# Altium integrated library TI Digital Signal Processor 32-Bit.IntLib: 121 symbols (part 8 of 13)
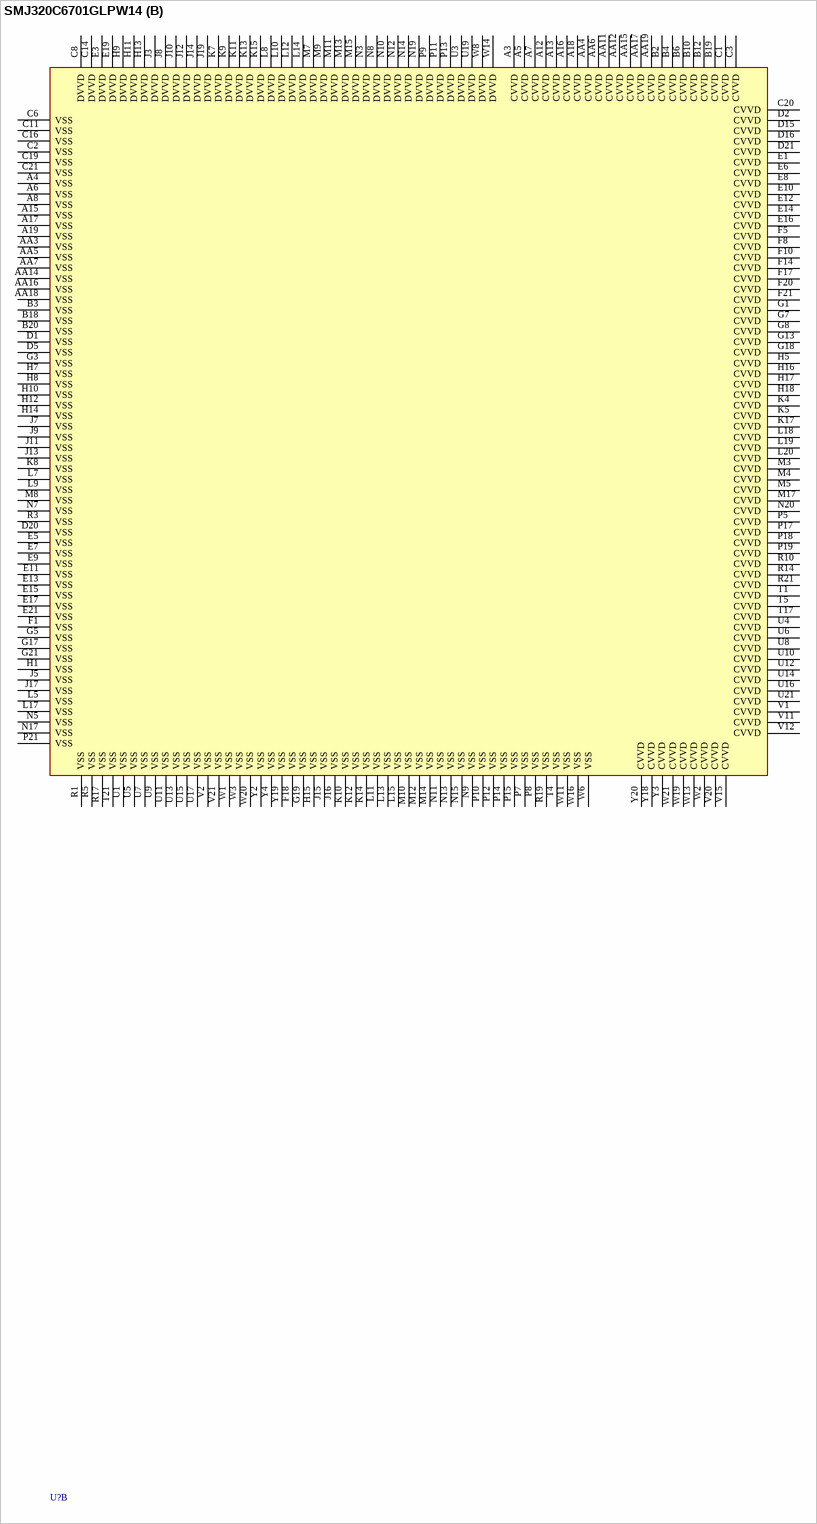
[diagram p137: symbol SMJ320C6701GLPW14]

## SMJ320C6701GLPW14
designator U?
Floating-Point, 1.9/3.3V DSP; Note: PLLV and PLLG are not part of external voltage supply or ground.; Published: 25-Jan-2001; LatestRevisionDate: 13-Apr-2006; LatestRevisionNote: IPC-7351 Footprint Added.; DatasheetVersion: Apr-2000; PackageVersion: Sep-1998; PackageReference: GLP429; Publisher: Altium Limited; PackageDescription: 429-Ball Ceramic Ball Grid Array 1.27 mm Pitch; ComponentLink1Description: Manufacturer Link; ComponentLink1URL: http://www.ti.com/; ComponentLink2Description: Datasheet; ComponentLink2URL: http://www-s.ti.com/sc/ds/smj320c6701.pdf
footprint GLP429 (BGA, 429-Leads, Body 27x27mm, Pitch 1.27mm)
3D model SMJ320C6701-GLP429 (429-Ball Ceramic Ball Grid Array 1.27 mm Pitch)
part A pins: A9 HD5 (io), A10 HD10 (io), A11 HD13 (io), A14 CLKIN (in), AA8 SSCLK (hiz), AA9 ED2 (io), AA10 ED6 (io), AA13 ED13 (io), B5 RSV8 (in), B7 HD1 (io), B8 HD4 (io), B9 HD8 (io), B11 HD14 (io), B13 RSV2 (in), B14 RSV3 (in), B15 ~{HOLDA} (out), B16 BOOTMODE4 (in), B17 CLKMODE1 (in), C4 ~{HDS}1 (in), C5 ~{HCS} (in), C7 HD0 (io), C9 HD6 (io), C10 HD9 (io), C12 PLLF, C13 PLLFREQ3 (in), C15 RSV5 (out), C17 CLKMODE0 (in), C18 BOOTMODE1 (in), D3 NC, D4 HR/~{W} (in), D6 NC, D7 RSV7 (in), D8 HD2 (io), D9 HD3 (io), D10 HD11 (io), D11 HD15 (io), D12 PLLV (power), D13 NC, D14 NC, D17 BOOTMODE0 (in), D18 NC, D19 PD (out), E2 DR1 (in), E4 HHWIL (in), E18 DMAC3 (out), E20 DMAC1 (out), F2 FSX1 (io), F3 FSR1 (io), F4 CLKS1 (in), F6 ~{HBE}0 (in), F7 RSV6 (in), F9 HD7 (io), F11 PLLFREQ1 (in), F12 NC, F13 RSV4 (in), F15 BOOTMODE2 (in), F16 RSV9 (out), F19 DMAC2 (out), G2 TOUT1 (hiz), G4 DX1 (hiz), G6 ~{HBE}1 (in), G9 HD12 (io), G10 PLLG (power), G11 PLLFREQ2 (in), G12 NC, G14 BOOTMODE3 (in), G15 NC, G16 DMAC0 (out), G20 LENDIAN (in), H2 ~{HINT} (hiz), H3 ~{HRDY} (out), H4 CLKR1 (io), H6 HCNTL0 (in), H19 NC, H20 NC, H21 NC, J1 EA18 (hiz), J2 EA19 (hiz), J4 CLKX1 (io), J6 HCNTL1 (in), J18 TINP0 (in), J20 ~{RESET} (in), J21 DR0 (in), K1 EA17 (hiz), K2 EA16 (hiz), K3 TINP1 (in), K6 ~{HDS}2 (in), K16 RSV1 (in), K18 CLKS0 (in), K19 TMS (in), K20 CLKX0 (io), K21 NMI (in), L1 EA14 (hiz), L2 EA15 (hiz), L3 EA20 (hiz), L4 EA21 (hiz), L6 ~{HAS} (in), L16 NC, L21 CLKR0 (io), M1 EA13 (hiz), M2 EA12 (hiz), M6 EA11 (hiz), M16 NC, M18 TOUT0 (hiz), M19 NC, M20 TCK (in), M21 DX0 (hiz), N1 EA9 (hiz), N2 EA8 (hiz), N4 EA10 (hiz), N6 EA7 (hiz), N16 FSX0 (io), N18 ~{TRST} (in), N21 RSV0 (in), P1 EA3 (hiz), P2 EA4 (hiz), P3 EA5 (hiz), P4 EA6 (hiz), P6 EA2 (hiz), P16 FSR0 (io), P20 EXT_INT6 (in), R2 ~{BE}0 (hiz), R4 ARDY (in), R6 ~{HOLD} (in), R7 ~{ARE} (hiz), R8 ~{BE}3 (hiz), R9 ED16 (io), R11 IACK (out), R12 TDO (hiz), R13 TDI (in), R15 EXT_INT5 (in), R16 EXT_INT7 (in), R18 EXT_INT4 (in), R20 EMU1 (io), T2 ~{BE}1 (hiz), T3 ~{BE}2 (hiz), T6 ~{CE}1 (hiz), T7 ~{AOE} (hiz), T8 ~{SDWE} (hiz), T9 SDCLK (hiz), T10 ED12 (io), T11 ED21 (io), T12 ED25 (io), T13 ED23 (io), T14 INUM1 (out), T15 ED29 (io), T16 INUM0 (out), T18 EMU0 (io), T19 INUM3 (out), T20 INUM2 (out), U2 ~{CE}0 (hiz), U18 ED31 (io), U20 ED30 (io), V3 ~{CE}2 (hiz), V4 NC, V5 ~{AWE} (hiz), V6 ~{SDRAS} (hiz), V7 SDA10 (hiz), V8 ~{SSADS} (hiz), V9 CLKOUT2 (out), V10 ED7 (io), V13 ED14 (io), V14 ED18 (io), V16 ED26 (io), V17 ED27 (io), V18 ED28 (io), V19 NC, W4 NC, W5 ~{SDCAS} (hiz), W7 ~{SSOE} (hiz), W9 ED0 (io), W10 ED4 (io), W12 ED10 (io), W15 ED19 (io), W17 ED24 (io), W18 NC, Y5 ~{CE}3 (hiz), Y6 CLKOUT1 (out), Y7 ~{SSWE} (hiz), Y8 ED1 (io), Y9 ED3 (io), Y10 ED5 (io), Y11 ED8 (io), Y12 ED9 (io), Y13 ED11 (io), Y14 ED15 (io), Y15 ED17 (io), Y16 ED20 (io), Y17 ED22 (io)
part B pins: A3 CVVD (power), A4 VSS (power), A5 CVVD (power), A6 VSS (power), A7 CVVD (power), A8 VSS (power), A12 CVVD (power), A13 CVVD (power), A15 VSS (power), A16 CVVD (power), A17 VSS (power), A18 CVVD (power), A19 VSS (power), AA3 VSS (power), AA4 CVVD (power), AA5 VSS (power), AA6 CVVD (power), AA7 VSS (power), AA11 CVVD (power), AA12 CVVD (power), AA14 VSS (power), AA15 CVVD (power), AA16 VSS (power), AA17 CVVD (power), AA18 VSS (power), AA19 CVVD (power), B2 CVVD (power), B3 VSS (power), B4 CVVD (power), B6 CVVD (power), B10 CVVD (power), B12 CVVD (power), B18 VSS (power), B19 CVVD (power), B20 VSS (power), C1 CVVD (power), C2 VSS (power), C3 CVVD (power), C6 VSS (power), C8 DVVD (power), C11 VSS (power), C14 DVVD (power), C16 VSS (power), C19 VSS (power), C20 CVVD (power), C21 VSS (power), D1 VSS (power), D2 CVVD (power), D5 VSS (power), D15 CVVD (power), D16 CVVD (power), D20 VSS (power), D21 CVVD (power), E1 CVVD (power), E3 DVVD (power), E5 VSS (power), E6 CVVD (power), E7 VSS (power), E8 CVVD (power), E9 VSS (power), E10 CVVD (power), E11 VSS (power), E12 CVVD (power), E13 VSS (power), E14 CVVD (power), E15 VSS (power), E16 CVVD (power), E17 VSS (power), E19 DVVD (power), E21 VSS (power), F1 VSS (power), F5 CVVD (power), F8 CVVD (power), F10 CVVD (power), F14 CVVD (power), F17 CVVD (power), F18 VSS (power), F20 CVVD (power), F21 CVVD (power), G1 CVVD (power), G3 VSS (power), G5 VSS (power), G7 CVVD (power), G8 CVVD (power), G13 CVVD (power), G17 VSS (power), G18 CVVD (power), G19 VSS (power), G21 VSS (power), H1 VSS (power), H5 CVVD (power), H7 VSS (power), H8 VSS (power), H9 DVVD (power), H10 VSS (power), H11 DVVD (power), H12 VSS (power), H13 DVVD (power), H14 VSS (power), H15 VSS (power), H16 CVVD (power), H17 CVVD (power), H18 CVVD (power), J3 DVVD (power), J5 VSS (power), J7 VSS (power), J8 DVVD (power), J9 VSS (power), J10 DVVD (power), J11 VSS (power), J12 DVVD (power), J13 VSS (power), J14 DVVD (power), J15 VSS (power), J16 VSS (power), J17 VSS (power), J19 DVVD (power), K4 CVVD (power), K5 CVVD (power), K7 DVVD (power), K8 VSS (power), K9 DVVD (power), K10 VSS (power), K11 DVVD (power), K12 VSS (power), K13 DVVD (power), K14 VSS (power), K15 DVVD (power), K17 CVVD (power), L5 VSS (power), L7 VSS (power), L8 DVVD (power), L9 VSS (power), L10 DVVD (power), L11 VSS (power), L12 DVVD (power), L13 VSS (power), L14 DVVD (power), L15 VSS (power), L17 VSS (power), L18 CVVD (power), L19 CVVD (power), L20 CVVD (power), M3 CVVD (power), M4 CVVD (power), M5 CVVD (power), M7 DVVD (power), M8 VSS (power), M9 DVVD (power), M10 VSS (power), M11 DVVD (power), M12 VSS (power), M13 DVVD (power), M14 VSS (power), M15 DVVD (power), M17 CVVD (power), N3 DVVD (power), N5 VSS (power), N7 VSS (power), N8 DVVD (power), N9 VSS (power), N10 DVVD (power), N11 VSS (power), N12 DVVD (power), N13 VSS (power), N14 DVVD (power), N15 VSS (power), N17 VSS (power), N19 DVVD (power), N20 CVVD (power), P5 CVVD (power), P7 VSS (power), P8 VSS (power), P9 DVVD (power), P10 VSS (power), P11 DVVD (power), P12 VSS (power), P13 DVVD (power), P14 VSS (power), P15 VSS (power), P17 CVVD (power), P18 CVVD (power), P19 CVVD (power), P21 VSS (power), R1 VSS (power), R3 VSS (power), R5 VSS (power), R10 CVVD (power), R14 CVVD (power), R17 VSS (power), R19 VSS (power), R21 CVVD (power), T1 CVVD (power), T4 VSS (power), T5 CVVD (power), T17 CVVD (power), T21 VSS (power), U1 VSS (power), U3 DVVD (power), U4 CVVD (power), U5 VSS (power), U6 CVVD (power), U7 VSS (power), U8 CVVD (power), U9 VSS (power), U10 CVVD (power), U11 VSS (power), U12 CVVD (power), U13 VSS (power), U14 CVVD (power), U15 VSS (power), U16 CVVD (power), U17 VSS (power), U19 DVVD (power), U21 CVVD (power), V1 CVVD (power), V2 VSS (power), V11 CVVD (power), V12 CVVD (power), V15 CVVD (power), V20 CVVD (power), V21 VSS (power), W1 VSS (power), W2 CVVD (power), W3 VSS (power), W6 VSS (power), W8 DVVD (power), W11 VSS (power), W13 CVVD (power), W14 DVVD (power), W16 VSS (power), W19 CVVD (power), W20 VSS (power), W21 CVVD (power), Y2 VSS (power), Y3 CVVD (power), Y4 VSS (power), Y18 CVVD (power), Y19 VSS (power), Y20 CVVD (power)

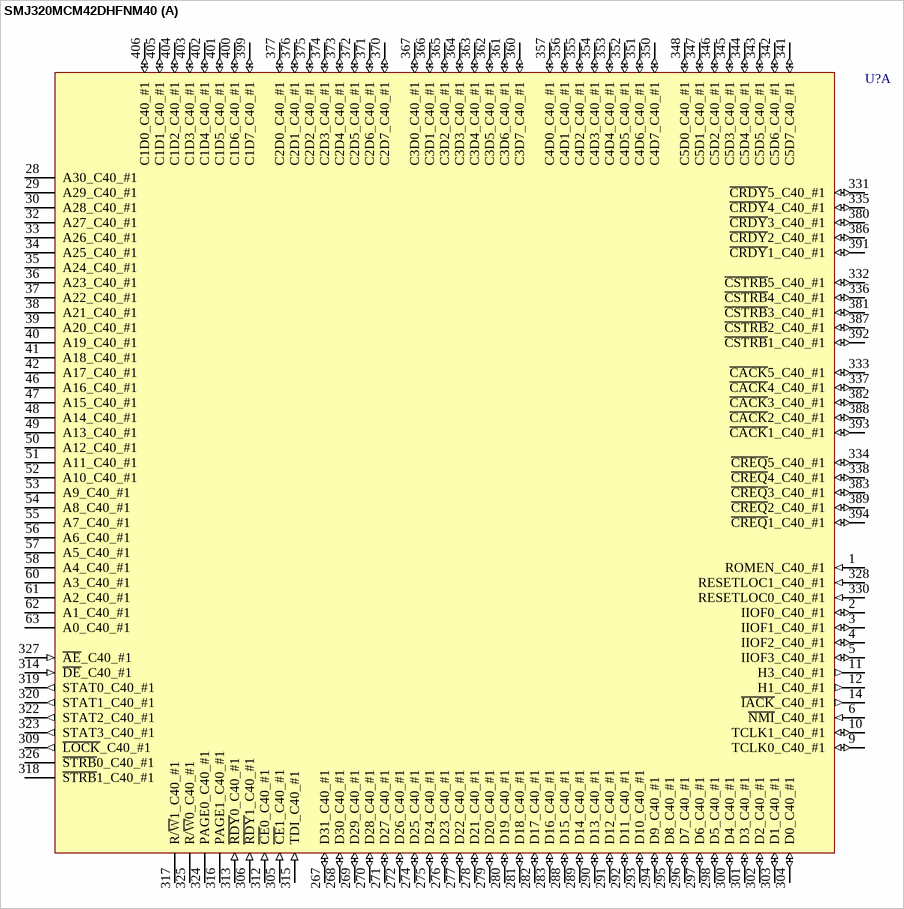
[diagram p84: symbol SMJ320MCM42DHFNM40]

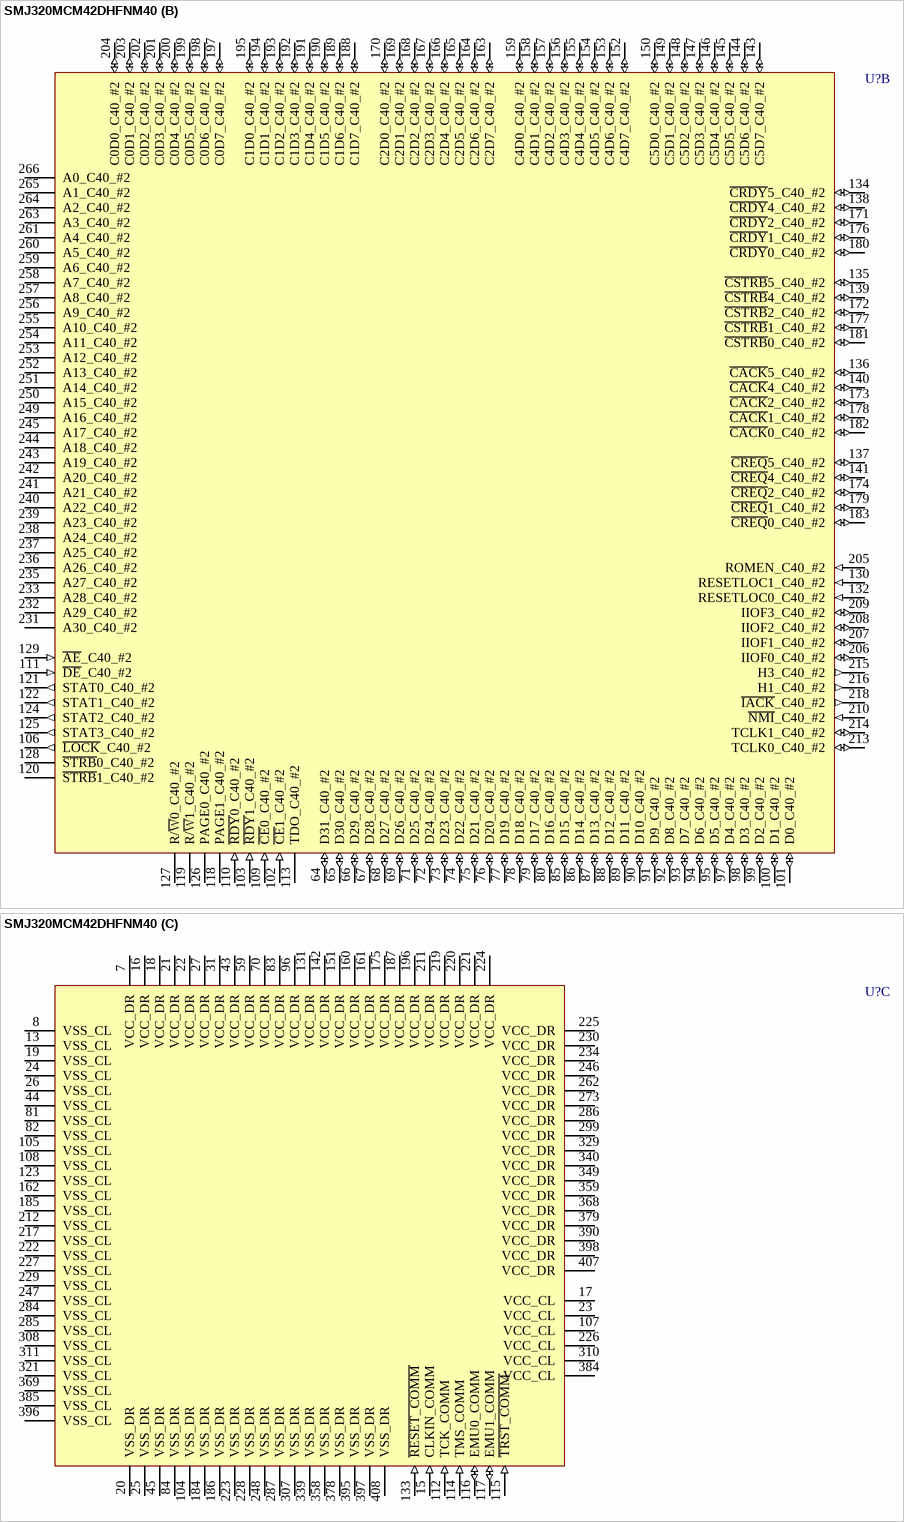
[diagram p85: symbol SMJ320MCM42DHFNM40]

## SMJ320MCM42DHFNM40
designator U?
Floating DSP; Published: 25-Jan-2001; LatestRevisionDate: 13-Apr-2006; LatestRevisionNote: IPC-7351 Footprint Added.; DatasheetVersion: Feb-2000; PackageVersion: Apr-1999; PackageReference: HFN408; Publisher: Altium Limited; PackageDescription: 408-Pin Ceramic Quad Flat Pack 0.635 mm Pitch; ComponentLink1Description: Manufacturer Link; ComponentLink1URL: http://www.ti.com/; ComponentLink2Description: Datasheet; ComponentLink2URL: http://www-s.ti.com/sc/ds/smj320mcm42d.pdf
footprint HFN408_N (CQFP, 408-Leads, Body 67x67mm; Pitch 0.635mm, Gullwing Leadform, IPC Medium Density)
footprint HFN408_L (CQFP, 408-Leads, Body 67x67mm; Pitch 0.635mm, Gullwing Leadform, IPC High Density)
footprint HFN408_M (CQFP, 408-Leads, Body 67x67mm; Pitch 0.635mm, Gullwing Leadform, IPC Low Density)
3D model SMJ320MCM42-HFN408 (408-Pin Ceramic Quad Flat Pack 0.635 mm Pitch)
part A pins: 1 ROMEN_C40_#1 (in), 2 IIOF0_C40_#1 (io), 3 IIOF1_C40_#1 (io), 4 IIOF2_C40_#1 (io), 5 IIOF3_C40_#1 (io), 6 ~{NMI}_C40_#1 (in), 9 TCLK0_C40_#1 (io), 10 TCLK1_C40_#1 (io), 11 H3_C40_#1 (out), 12 H1_C40_#1 (out), 14 ~{IACK}_C40_#1 (out), 28 A30_C40_#1 (hiz), 29 A29_C40_#1 (hiz), 30 A28_C40_#1 (hiz), 32 A27_C40_#1 (hiz), 33 A26_C40_#1 (hiz), 34 A25_C40_#1 (hiz), 35 A24_C40_#1 (hiz), 36 A23_C40_#1 (hiz), 37 A22_C40_#1 (hiz), 38 A21_C40_#1 (hiz), 39 A20_C40_#1 (hiz), 40 A19_C40_#1 (hiz), 41 A18_C40_#1 (hiz), 42 A17_C40_#1 (hiz), 46 A16_C40_#1 (hiz), 47 A15_C40_#1 (hiz), 48 A14_C40_#1 (hiz), 49 A13_C40_#1 (hiz), 50 A12_C40_#1 (hiz), 51 A11_C40_#1 (hiz), 52 A10_C40_#1 (hiz), 53 A9_C40_#1 (hiz), 54 A8_C40_#1 (hiz), 55 A7_C40_#1 (hiz), 56 A6_C40_#1 (hiz), 57 A5_C40_#1 (hiz), 58 A4_C40_#1 (hiz), 60 A3_C40_#1 (hiz), 61 A2_C40_#1 (hiz), 62 A1_C40_#1 (hiz), 63 A0_C40_#1 (hiz), 267 D31_C40_#1 (io), 268 D30_C40_#1 (io), 269 D29_C40_#1 (io), 270 D28_C40_#1 (io), 271 D27_C40_#1 (io), 272 D26_C40_#1 (io), 274 D25_C40_#1 (io), 275 D24_C40_#1 (io), 276 D23_C40_#1 (io), 277 D22_C40_#1 (io), 278 D21_C40_#1 (io), 279 D20_C40_#1 (io), 280 D19_C40_#1 (io), 281 D18_C40_#1 (io), 282 D17_C40_#1 (io), 283 D16_C40_#1 (io), 288 D15_C40_#1 (io), 289 D14_C40_#1 (io), 290 D13_C40_#1 (io), 291 D12_C40_#1 (io), 292 D11_C40_#1 (io), 293 D10_C40_#1 (io), 294 D9_C40_#1 (io), 295 D8_C40_#1 (io), 296 D7_C40_#1 (io), 297 D6_C40_#1 (io), 298 D5_C40_#1 (io), 300 D4_C40_#1 (io), 301 D3_C40_#1 (io), 302 D2_C40_#1 (io), 303 D1_C40_#1 (io), 304 D0_C40_#1 (io), 305 ~{CE}1_C40_#1 (in), 306 ~{RDY}1_C40_#1 (in), 309 ~{LOCK}_C40_#1 (out), 312 ~{CE}0_C40_#1 (in), 313 ~{RDY}0_C40_#1 (in), 314 ~{DE}_C40_#1 (in), 315 TDI_C40_#1 (in), 316 PAGE1_C40_#1 (hiz), 317 R/~{W}1_C40_#1 (hiz), 318 ~{STRB}1_C40_#1 (hiz), 319 STAT0_C40_#1 (out), 320 STAT1_C40_#1 (out), 322 STAT2_C40_#1 (out), 323 STAT3_C40_#1 (out), 324 PAGE0_C40_#1 (hiz), 325 R/~{W}0_C40_#1 (hiz), 326 ~{STRB}0_C40_#1 (hiz), 327 ~{AE}_C40_#1 (in), 328 RESETLOC1_C40_#1 (in), 330 RESETLOC0_C40_#1 (in), 331 ~{CRDY}5_C40_#1 (io), 332 ~{CSTRB}5_C40_#1 (io), 333 ~{CACK}5_C40_#1 (io), 334 ~{CREQ}5_C40_#1 (io), 335 ~{CRDY}4_C40_#1 (io), 336 ~{CSTRB}4_C40_#1 (io), 337 ~{CACK}4_C40_#1 (io), 338 ~{CREQ}4_C40_#1 (io), 341 C5D7_C40_#1 (io), 342 C5D6_C40_#1 (io), 343 C5D5_C40_#1 (io), 344 C5D4_C40_#1 (io), 345 C5D3_C40_#1 (io), 346 C5D2_C40_#1 (io), 347 C5D1_C40_#1 (io), 348 C5D0_C40_#1 (io), 350 C4D7_C40_#1 (io), 351 C4D6_C40_#1 (io), 352 C4D5_C40_#1 (io), 353 C4D4_C40_#1 (io), 354 C4D3_C40_#1 (io), 355 C4D2_C40_#1 (io), 356 C4D1_C40_#1 (io), 357 C4D0_C40_#1 (io), 360 C3D7_C40_#1 (io), 361 C3D6_C40_#1 (io), 362 C3D5_C40_#1 (io), 363 C3D4_C40_#1 (io), 364 C3D3_C40_#1 (io), 365 C3D2_C40_#1 (io), 366 C3D1_C40_#1 (io), 367 C3D0_C40_#1 (io), 370 C2D7_C40_#1 (io), 371 C2D6_C40_#1 (io), 372 C2D5_C40_#1 (io), 373 C2D4_C40_#1 (io), 374 C2D3_C40_#1 (io), 375 C2D2_C40_#1 (io), 376 C2D1_C40_#1 (io), 377 C2D0_C40_#1 (io), 380 ~{CRDY}3_C40_#1 (io), 381 ~{CSTRB}3_C40_#1 (io), 382 ~{CACK}3_C40_#1 (io), 383 ~{CREQ}3_C40_#1 (io), 386 ~{CRDY}2_C40_#1 (io), 387 ~{CSTRB}2_C40_#1 (io), 388 ~{CACK}2_C40_#1 (io), 389 ~{CREQ}2_C40_#1 (io), 391 ~{CRDY}1_C40_#1 (io), 392 ~{CSTRB}1_C40_#1 (io), 393 ~{CACK}1_C40_#1 (io), 394 ~{CREQ}1_C40_#1 (io), 399 C1D7_C40_#1 (io), 400 C1D6_C40_#1 (io), 401 C1D5_C40_#1 (io), 402 C1D4_C40_#1 (io), 403 C1D3_C40_#1 (io), 404 C1D2_C40_#1 (io), 405 C1D1_C40_#1 (io), 406 C1D0_C40_#1 (io)
part B pins: 64 D31_C40_#2 (io), 65 D30_C40_#2 (io), 66 D29_C40_#2 (io), 67 D28_C40_#2 (io), 68 D27_C40_#2 (io), 69 D26_C40_#2 (io), 71 D25_C40_#2 (io), 72 D24_C40_#2 (io), 73 D23_C40_#2 (io), 74 D22_C40_#2 (io), 75 D21_C40_#2 (io), 76 D20_C40_#2 (io), 77 D19_C40_#2 (io), 78 D18_C40_#2 (io), 79 D17_C40_#2 (io), 80 D16_C40_#2 (io), 85 D15_C40_#2 (io), 86 D14_C40_#2 (io), 87 D13_C40_#2 (io), 88 D12_C40_#2 (io), 89 D11_C40_#2 (io), 90 D10_C40_#2 (io), 91 D9_C40_#2 (io), 92 D8_C40_#2 (io), 93 D7_C40_#2 (io), 94 D6_C40_#2 (io), 95 D5_C40_#2 (io), 97 D4_C40_#2 (io), 98 D3_C40_#2 (io), 99 D2_C40_#2 (io), 100 D1_C40_#2 (io), 101 D0_C40_#2 (io), 102 ~{CE}1_C40_#2 (in), 103 ~{RDY}1_C40_#2 (in), 106 ~{LOCK}_C40_#2 (out), 109 ~{CE}0_C40_#2 (in), 110 ~{RDY}0_C40_#2 (in), 111 ~{DE}_C40_#2 (in), 113 TDO_C40_#2 (hiz), 118 PAGE1_C40_#2 (hiz), 119 R/~{W}1_C40_#2 (hiz), 120 ~{STRB}1_C40_#2 (hiz), 121 STAT0_C40_#2 (out), 122 STAT1_C40_#2 (out), 124 STAT2_C40_#2 (out), 125 STAT3_C40_#2 (out), 126 PAGE0_C40_#2 (hiz), 127 R/~{W}0_C40_#2 (hiz), 128 ~{STRB}0_C40_#2 (hiz), 129 ~{AE}_C40_#2 (in), 130 RESETLOC1_C40_#2 (in), 132 RESETLOC0_C40_#2 (in), 134 ~{CRDY}5_C40_#2 (io), 135 ~{CSTRB}5_C40_#2 (io), 136 ~{CACK}5_C40_#2 (io), 137 ~{CREQ}5_C40_#2 (io), 138 ~{CRDY}4_C40_#2 (io), 139 ~{CSTRB}4_C40_#2 (io), 140 ~{CACK}4_C40_#2 (io), 141 ~{CREQ}4_C40_#2 (io), 143 C5D7_C40_#2 (io), 144 C5D6_C40_#2 (io), 145 C5D5_C40_#2 (io), 146 C5D4_C40_#2 (io), 147 C5D3_C40_#2 (io), 148 C5D2_C40_#2 (io), 149 C5D1_C40_#2 (io), 150 C5D0_C40_#2 (io), 152 C4D7_C40_#2 (io), 153 C4D6_C40_#2 (io), 154 C4D5_C40_#2 (io), 155 C4D4_C40_#2 (io), 156 C4D3_C40_#2 (io), 157 C4D2_C40_#2 (io), 158 C4D1_C40_#2 (io), 159 C4D0_C40_#2 (io), 163 C2D7_C40_#2 (io), 164 C2D6_C40_#2 (io), 165 C2D5_C40_#2 (io), 166 C2D4_C40_#2 (io), 167 C2D3_C40_#2 (io), 168 C2D2_C40_#2 (io), 169 C2D1_C40_#2 (io), 170 C2D0_C40_#2 (io), 171 ~{CRDY}2_C40_#2 (io), 172 ~{CSTRB}2_C40_#2 (io), 173 ~{CACK}2_C40_#2 (io), 174 ~{CREQ}2_C40_#2 (io), 176 ~{CRDY}1_C40_#2 (io), 177 ~{CSTRB}1_C40_#2 (io), 178 ~{CACK}1_C40_#2 (io), 179 ~{CREQ}1_C40_#2 (io), 180 ~{CRDY}0_C40_#2 (io), 181 ~{CSTRB}0_C40_#2 (io), 182 ~{CACK}0_C40_#2 (io), 183 ~{CREQ}0_C40_#2 (io), 188 C1D7_C40_#2 (io), 189 C1D6_C40_#2 (io), 190 C1D5_C40_#2 (io), 191 C1D4_C40_#2 (io), 192 C1D3_C40_#2 (io), 193 C1D2_C40_#2 (io), 194 C1D1_C40_#2 (io), 195 C1D0_C40_#2 (io), 197 C0D7_C40_#2 (io), 198 C0D6_C40_#2 (io), 199 C0D5_C40_#2 (io), 200 C0D4_C40_#2 (io), 201 C0D3_C40_#2 (io), 202 C0D2_C40_#2 (io), 203 C0D1_C40_#2 (io), 204 C0D0_C40_#2 (io), 205 ROMEN_C40_#2 (in), 206 IIOF0_C40_#2 (io), 207 IIOF1_C40_#2 (io), 208 IIOF2_C40_#2 (io), 209 IIOF3_C40_#2 (io), 210 ~{NMI}_C40_#2 (in), 213 TCLK0_C40_#2 (io), 214 TCLK1_C40_#2 (io), 215 H3_C40_#2 (out), 216 H1_C40_#2 (out), 218 ~{IACK}_C40_#2 (out), 231 A30_C40_#2 (hiz), 232 A29_C40_#2 (hiz), 233 A28_C40_#2 (hiz), 235 A27_C40_#2 (hiz), 236 A26_C40_#2 (hiz), 237 A25_C40_#2 (hiz), 238 A24_C40_#2 (hiz), 239 A23_C40_#2 (hiz), 240 A22_C40_#2 (hiz), 241 A21_C40_#2 (hiz), 242 A20_C40_#2 (hiz), 243 A19_C40_#2 (hiz), 244 A18_C40_#2 (hiz), 245 A17_C40_#2 (hiz), 249 A16_C40_#2 (hiz), 250 A15_C40_#2 (hiz), 251 A14_C40_#2 (hiz), 252 A13_C40_#2 (hiz), 253 A12_C40_#2 (hiz), 254 A11_C40_#2 (hiz), 255 A10_C40_#2 (hiz), 256 A9_C40_#2 (hiz), 257 A8_C40_#2 (hiz), 258 A7_C40_#2 (hiz), 259 A6_C40_#2 (hiz), 260 A5_C40_#2 (hiz), 261 A4_C40_#2 (hiz), 263 A3_C40_#2 (hiz), 264 A2_C40_#2 (hiz), 265 A1_C40_#2 (hiz), 266 A0_C40_#2 (hiz)
part C pins: 7 VCC_DR (power), 8 VSS_CL (power), 13 VSS_CL (power), 15 CLKIN_COMM (in), 16 VCC_DR (power), 17 VCC_CL (power), 18 VCC_DR (power), 19 VSS_CL (power), 20 VSS_DR (power), 21 VCC_DR (power), 22 VCC_DR (power), 23 VCC_CL (power), 24 VSS_CL (power), 25 VSS_DR (power), 26 VSS_CL (power), 27 VCC_DR (power), 31 VCC_DR (power), 43 VCC_DR (power), 44 VSS_CL (power), 45 VSS_DR (power), 59 VCC_DR (power), 70 VCC_DR (power), 81 VSS_CL (power), 82 VSS_CL (power), 83 VCC_DR (power), 84 VSS_DR (power), 96 VCC_DR (power), 104 VSS_DR (power), 105 VSS_CL (power), 107 VCC_CL (power), 108 VSS_CL (power), 112 TCK_COMM (in), 114 TMS_COMM (in), 115 ~{TRST_COMM} (in), 116 EMU0_COMM (io), 117 EMU1_COMM (io), 123 VSS_CL (power), 131 VCC_DR (power), 133 ~{RESET_COMM} (in), 142 VCC_DR (power), 151 VCC_DR (power), 160 VCC_DR (power), 161 VCC_DR (power), 162 VSS_CL (power), 175 VCC_DR (power), 184 VSS_DR (power), 185 VSS_CL (power), 186 VSS_DR (power), 187 VCC_DR (power), 196 VCC_DR (power), 211 VCC_DR (power), 212 VSS_CL (power), 217 VSS_CL (power), 219 VCC_DR (power), 220 VCC_DR (power), 221 VCC_DR (power), 222 VSS_CL (power), 223 VSS_DR (power), 224 VCC_DR (power), 225 VCC_DR (power), 226 VCC_CL (power), 227 VSS_CL (power), 228 VSS_DR (power), 229 VSS_CL (power), 230 VCC_DR (power), 234 VCC_DR (power), 246 VCC_DR (power), 247 VSS_CL (power), 248 VSS_DR (power), 262 VCC_DR (power), 273 VCC_DR (power), 284 VSS_CL (power), 285 VSS_CL (power), 286 VCC_DR (power), 287 VSS_DR (power), 299 VCC_DR (power), 307 VSS_DR (power), 308 VSS_CL (power), 310 VCC_CL (power), 311 VSS_CL (power), 321 VSS_CL (power), 329 VCC_DR (power), 339 VSS_DR (power), 340 VCC_DR (power), 349 VCC_DR (power), 358 VSS_DR (power), 359 VCC_DR (power), 368 VCC_DR (power), 369 VSS_CL (power), 378 VSS_DR (power), 379 VCC_DR (power), 384 VCC_CL (power), 385 VSS_CL (power), 390 VCC_DR (power), 395 VSS_DR (power), 396 VSS_CL (power), 397 VSS_DR (power), 398 VCC_DR (power), 407 VCC_DR (power), 408 VSS_DR (power)

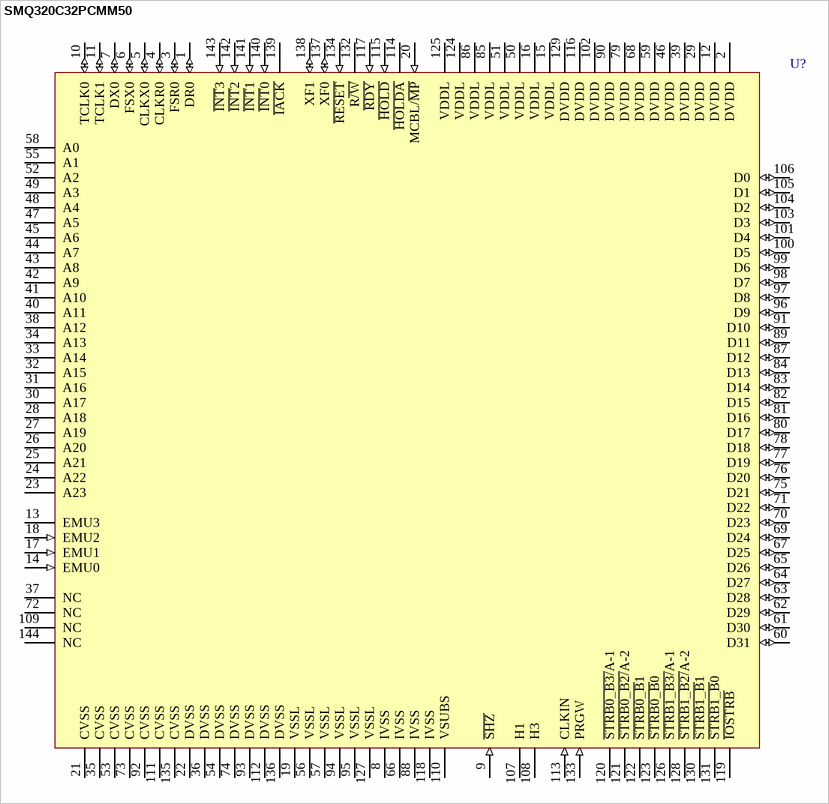
[diagram p86: symbol SMQ320C32PCMM50]

## SMQ320C32PCMM50
designator U?
Floating DSP; Published: 25-Jan-2001; LatestRevisionDate: 13-Apr-2006; LatestRevisionNote: IPC-7351 Footprint Added.; DatasheetVersion: Dec-1996; PackageVersion: May-1999; PackageReference: PCM144; Publisher: Altium Limited; PackageDescription: 144-Pin Quad Flat Pack 0.65 mm Pitch; ComponentLink1Description: Manufacturer Link; ComponentLink1URL: http://www.ti.com/
footprint PCM144_N (QFP, 144-Leads, Body 28 x 28mm, Pitch 0.65mm, IPC Medium Density)
footprint PCM144_L (QFP, 144-Leads, Body 28 x 28mm, Pitch 0.65mm, IPC High Density)
footprint PCM144_M (QFP, 144-Leads, Body 28 x 28mm, Pitch 0.65mm, IPC Low Density)
3D model SMQ320C32-PCM144 (144-Pin Quad Flat Pack 0.65 mm Pitch)
pins: 1 DR0 (io), 2 DVDD (power), 3 FSR0 (io), 4 CLKR0 (io), 5 CLKX0 (io), 6 FSX0 (io), 7 DX0 (io), 8 IVSS (power), 9 ~{SHZ} (in), 10 TCLK0 (io), 11 TCLK1 (io), 12 DVDD (power), 13 EMU3 (hiz), 14 EMU0 (in), 15 VDDL (power), 16 VDDL (power), 17 EMU1 (in), 18 EMU2 (in), 19 VSSL (power), 20 MCBL/~{MP} (in), 21 CVSS (power), 22 DVSS (power), 23 A23 (hiz), 24 A22 (hiz), 25 A21 (hiz), 26 A20 (hiz), 27 A19 (hiz), 28 A18 (hiz), 29 DVDD (power), 30 A17 (hiz), 31 A16 (hiz), 32 A15 (hiz), 33 A14 (hiz), 34 A13 (hiz), 35 CVSS (power), 36 DVSS (power), 37 NC, 38 A12 (hiz), 39 DVDD (power), 40 A11 (hiz), 41 A10 (hiz), 42 A9 (hiz), 43 A8 (hiz), 44 A7 (hiz), 45 A6 (hiz), 46 DVDD (power), 47 A5 (hiz), 48 A4 (hiz), 49 A3 (hiz), 50 VDDL (power), 51 VDDL (power), 52 A2 (hiz), 53 CVSS (power), 54 DVSS (power), 55 A1 (hiz), 56 VSSL (power), 57 VSSL (power), 58 A0 (hiz), 59 DVDD (power), 60 D31 (io), 61 D30 (io), 62 D29 (io), 63 D28 (io), 64 D27 (io), 65 D26 (io), 66 IVSS (power), 67 D25 (io), 68 DVDD (power), 69 D24 (io), 70 D23 (io), 71 D22 (io), 72 NC, 73 CVSS (power), 74 DVSS (power), 75 D21 (io), 76 D20 (io), 77 D19 (io), 78 D18 (io), 79 DVDD (power), 80 D17 (io), 81 D16 (io), 82 D15 (io), 83 D14 (io), 84 D13 (io), 85 VDDL (power), 86 VDDL (power), 87 D12 (io), 88 IVSS (power), 89 D11 (io), 90 DVDD (power), 91 D10 (io), 92 CVSS (power), 93 DVSS (power), 94 VSSL (power), 95 VSSL (power), 96 D9 (io), 97 D8 (io), 98 D7 (io), 99 D6 (io), 100 D5 (io), 101 D4 (io), 102 DVDD (power), 103 D3 (io), 104 D2 (io), 105 D1 (io), 106 D0 (io), 107 H1 (hiz), 108 H3 (hiz), 109 NC, 110 VSUBS (power), 111 CVSS (power), 112 DVSS (power), 113 CLKIN (in), 114 ~{HOLDA} (hiz), 115 ~{HOLD} (in), 116 DVDD (power), 117 ~{RDY} (in), 118 IVSS (power), 119 ~{IOSTRB} (hiz), 120 ~{STRB0_B3/}A-1 (hiz), 121 ~{STRB0_B2/}A-2 (hiz), 122 ~{STRB0_B}1 (hiz), 123 ~{STRB0_B}0 (hiz), 124 VDDL (power), 125 VDDL (power), 126 ~{STRB1_B3/}A-1 (hiz), 127 VSSL (power), 128 ~{STRB1_B2/}A-2 (hiz), 129 DVDD (power), 130 ~{STRB1_B}1 (hiz), 131 ~{STRB1_B}0 (hiz), 132 R~{/W} (hiz), 133 PRGW (in), 134 ~{RESET} (in), 135 CVSS (power), 136 DVSS (power), 137 XF0 (io), 138 XF1 (io), 139 ~{IACK} (hiz), 140 ~{INT}0 (in), 141 ~{INT}1 (in), 142 ~{INT}2 (in), 143 ~{INT}3 (in), 144 NC

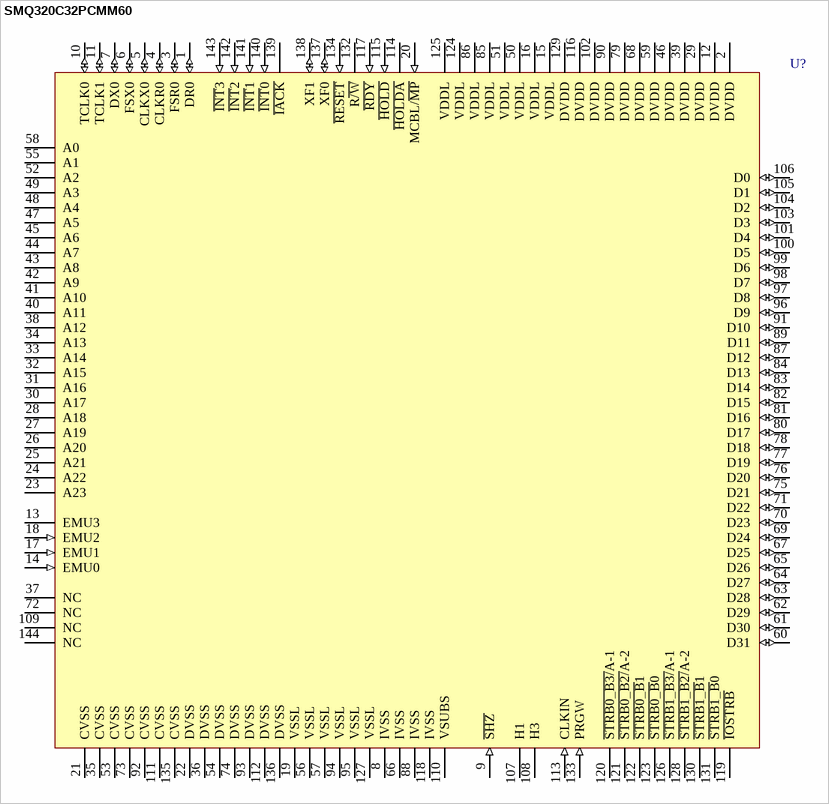
[diagram p87: symbol SMQ320C32PCMM60]

## SMQ320C32PCMM60
designator U?
Floating DSP; Published: 25-Jan-2001; LatestRevisionDate: 13-Apr-2006; LatestRevisionNote: IPC-7351 Footprint Added.; DatasheetVersion: Dec-1996; PackageVersion: May-1999; PackageReference: PCM144; Publisher: Altium Limited; PackageDescription: 144-Pin Quad Flat Pack 0.65 mm Pitch; ComponentLink1Description: Manufacturer Link; ComponentLink1URL: http://www.ti.com/
footprint PCM144_N (QFP, 144-Leads, Body 28 x 28mm, Pitch 0.65mm, IPC Medium Density)
footprint PCM144_L (QFP, 144-Leads, Body 28 x 28mm, Pitch 0.65mm, IPC High Density)
footprint PCM144_M (QFP, 144-Leads, Body 28 x 28mm, Pitch 0.65mm, IPC Low Density)
3D model SMQ320C32-PCM144 (144-Pin Quad Flat Pack 0.65 mm Pitch)
pins: 1 DR0 (io), 2 DVDD (power), 3 FSR0 (io), 4 CLKR0 (io), 5 CLKX0 (io), 6 FSX0 (io), 7 DX0 (io), 8 IVSS (power), 9 ~{SHZ} (in), 10 TCLK0 (io), 11 TCLK1 (io), 12 DVDD (power), 13 EMU3 (hiz), 14 EMU0 (in), 15 VDDL (power), 16 VDDL (power), 17 EMU1 (in), 18 EMU2 (in), 19 VSSL (power), 20 MCBL/~{MP} (in), 21 CVSS (power), 22 DVSS (power), 23 A23 (hiz), 24 A22 (hiz), 25 A21 (hiz), 26 A20 (hiz), 27 A19 (hiz), 28 A18 (hiz), 29 DVDD (power), 30 A17 (hiz), 31 A16 (hiz), 32 A15 (hiz), 33 A14 (hiz), 34 A13 (hiz), 35 CVSS (power), 36 DVSS (power), 37 NC, 38 A12 (hiz), 39 DVDD (power), 40 A11 (hiz), 41 A10 (hiz), 42 A9 (hiz), 43 A8 (hiz), 44 A7 (hiz), 45 A6 (hiz), 46 DVDD (power), 47 A5 (hiz), 48 A4 (hiz), 49 A3 (hiz), 50 VDDL (power), 51 VDDL (power), 52 A2 (hiz), 53 CVSS (power), 54 DVSS (power), 55 A1 (hiz), 56 VSSL (power), 57 VSSL (power), 58 A0 (hiz), 59 DVDD (power), 60 D31 (io), 61 D30 (io), 62 D29 (io), 63 D28 (io), 64 D27 (io), 65 D26 (io), 66 IVSS (power), 67 D25 (io), 68 DVDD (power), 69 D24 (io), 70 D23 (io), 71 D22 (io), 72 NC, 73 CVSS (power), 74 DVSS (power), 75 D21 (io), 76 D20 (io), 77 D19 (io), 78 D18 (io), 79 DVDD (power), 80 D17 (io), 81 D16 (io), 82 D15 (io), 83 D14 (io), 84 D13 (io), 85 VDDL (power), 86 VDDL (power), 87 D12 (io), 88 IVSS (power), 89 D11 (io), 90 DVDD (power), 91 D10 (io), 92 CVSS (power), 93 DVSS (power), 94 VSSL (power), 95 VSSL (power), 96 D9 (io), 97 D8 (io), 98 D7 (io), 99 D6 (io), 100 D5 (io), 101 D4 (io), 102 DVDD (power), 103 D3 (io), 104 D2 (io), 105 D1 (io), 106 D0 (io), 107 H1 (hiz), 108 H3 (hiz), 109 NC, 110 VSUBS (power), 111 CVSS (power), 112 DVSS (power), 113 CLKIN (in), 114 ~{HOLDA} (hiz), 115 ~{HOLD} (in), 116 DVDD (power), 117 ~{RDY} (in), 118 IVSS (power), 119 ~{IOSTRB} (hiz), 120 ~{STRB0_B3/}A-1 (hiz), 121 ~{STRB0_B2/}A-2 (hiz), 122 ~{STRB0_B}1 (hiz), 123 ~{STRB0_B}0 (hiz), 124 VDDL (power), 125 VDDL (power), 126 ~{STRB1_B3/}A-1 (hiz), 127 VSSL (power), 128 ~{STRB1_B2/}A-2 (hiz), 129 DVDD (power), 130 ~{STRB1_B}1 (hiz), 131 ~{STRB1_B}0 (hiz), 132 R~{/W} (hiz), 133 PRGW (in), 134 ~{RESET} (in), 135 CVSS (power), 136 DVSS (power), 137 XF0 (io), 138 XF1 (io), 139 ~{IACK} (hiz), 140 ~{INT}0 (in), 141 ~{INT}1 (in), 142 ~{INT}2 (in), 143 ~{INT}3 (in), 144 NC

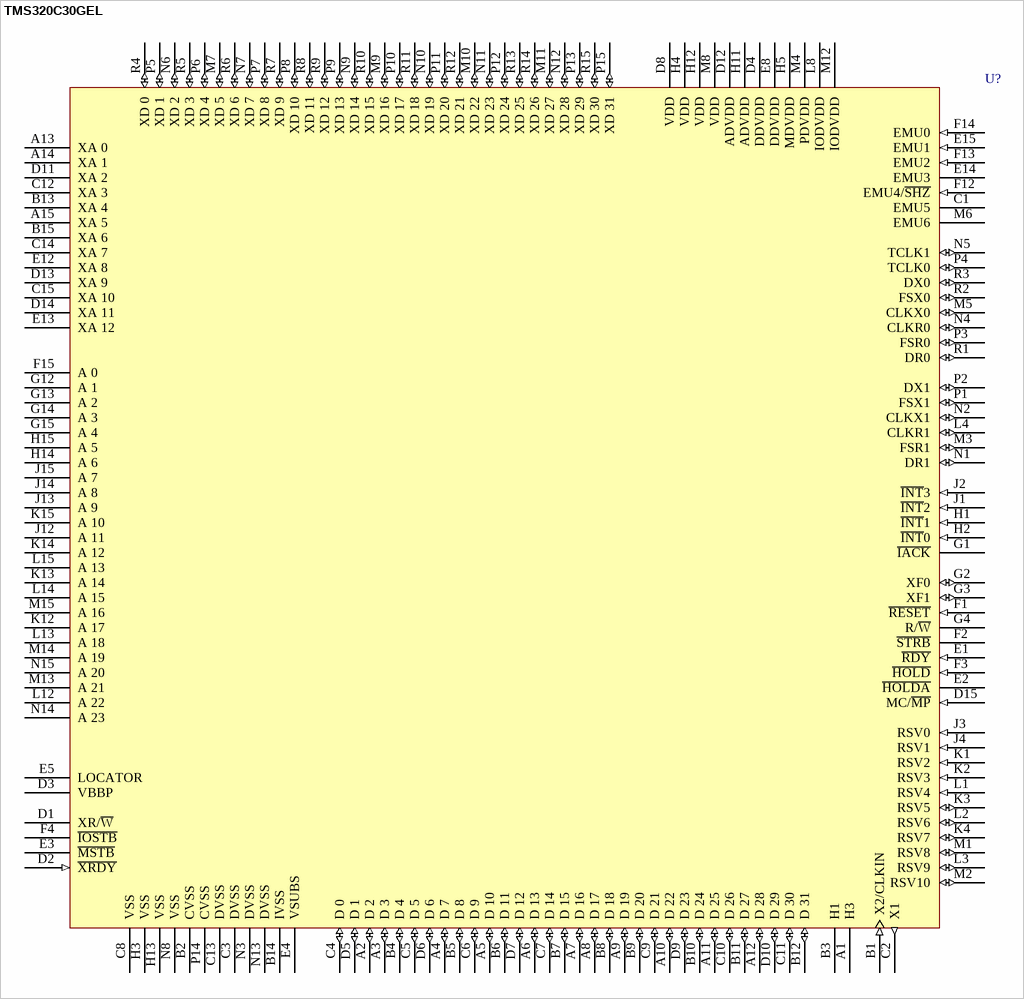
[diagram p88: symbol TMS320C30GEL]

## TMS320C30GEL
designator U?
Floating DSP; Published: 25-Jan-2001; LatestRevisionDate: 08-Jul-2005; LatestRevisionNote: Stylized 3D Model Added.; DatasheetVersion: Jun-1997; PackageVersion: Jun-1997; PackageReference: GE181; Publisher: Altium Limited; PackageDescription: 181-Pin Pin Grid Array 2.54 mm Pitch; ComponentLink1Description: Manufacturer Link; ComponentLink1URL: http://www.ti.com/; ComponentLink2Description: Datasheet; ComponentLink2URL: http://www-s.ti.com/sc/ds/tms320c30.pdf
footprint GE181 (PGA, 181-Leads, Body 39x39mm, Pitch 2.54mm)
3D model TMS320C30-GE181 (181-Pin Pin Grid Array 2.54 mm Pitch)
pins: A1 H3 (hiz), A2 D 2 (io), A3 D 3 (io), A4 D 7 (io), A5 D 10 (io), A6 D 13 (io), A7 D 16 (io), A8 D 17 (io), A9 D 19 (io), A10 D 22 (io), A11 D 25 (io), A12 D 28 (io), A13 XA 0 (hiz), A14 XA 1 (hiz), A15 XA 5 (hiz), B1 X2/CLKIN (in), B2 CVSS (power), B3 H1 (hiz), B4 D 4 (io), B5 D 8 (io), B6 D 11 (io), B7 D 15 (io), B8 D 18 (io), B9 D 20 (io), B10 D 24 (io), B11 D 27 (io), B12 D 31 (io), B13 XA 4 (hiz), B14 IVSS (power), B15 XA 6 (hiz), C1 EMU5, C2 X1 (out), C3 DVSS (power), C4 D 0 (io), C5 D 5 (io), C6 D 9 (io), C7 D 14 (io), C8 VSS (power), C9 D 21 (io), C10 D 26 (io), C11 D 30 (io), C12 XA 3 (hiz), C13 DVSS (power), C14 XA 7 (hiz), C15 XA 10 (hiz), D1 XR/~{W} (hiz), D2 ~{XRDY} (in), D3 VBBP, D4 DDVDD (power), D5 D 1 (io), D6 D 6 (io), D7 D 12 (io), D8 VDD (power), D9 D 23 (io), D10 D 29 (io), D11 XA 2 (hiz), D12 ADVDD (power), D13 XA 9 (hiz), D14 XA 11 (hiz), D15 MC/~{MP} (in), E1 ~{RDY} (in), E2 ~{HOLDA} (hiz), E3 ~{MSTB} (hiz), E4 VSUBS (power), E5 LOCATOR, E8 DDVDD (power), E12 XA 8 (hiz), E13 XA 12 (hiz), E14 EMU3 (hiz), E15 EMU1 (in), F1 ~{RESET} (in), F2 ~{STRB} (hiz), F3 ~{HOLD} (in), F4 ~{IOSTB} (hiz), F12 EMU4/~{SHZ} (in), F13 EMU2 (in), F14 EMU0 (in), F15 A 0 (hiz), G1 ~{IACK} (hiz), G2 XF0 (io), G3 XF1 (io), G4 R/~{W} (hiz), G12 A 1 (hiz), G13 A 2 (hiz), G14 A 3 (hiz), G15 A 4 (hiz), H1 ~{INT}1 (in), H2 ~{INT}0 (in), H3 VSS (power), H4 VDD (power), H5 MDVDD (power), H11 ADVDD (power), H12 VDD (power), H13 VSS (power), H14 A 6 (hiz), H15 A 5 (hiz), J1 ~{INT}2 (in), J2 ~{INT}3 (in), J3 RSV0 (in), J4 RSV1 (in), J12 A 11 (hiz), J13 A 9 (hiz), J14 A 8 (hiz), J15 A 7 (hiz), K1 RSV2 (in), K2 RSV3 (in), K3 RSV5 (io), K4 RSV7 (io), K12 A 17 (hiz), K13 A 14 (hiz), K14 A 12 (hiz), K15 A 10 (hiz), L1 RSV4 (in), L2 RSV6 (io), L3 RSV9 (io), L4 CLKR1 (io), L8 IODVDD (power), L12 A 22 (hiz), L13 A 18 (hiz), L14 A 15 (hiz), L15 A 13 (hiz), M1 RSV8 (io), M2 RSV10 (io), M3 FSR1 (io), M4 PDVDD (power), M5 CLKX0 (io), M6 EMU6, M7 XD 5 (io), M8 VDD (power), M9 XD 16 (io), M10 XD 22 (io), M11 XD 27 (io), M12 IODVDD (power), M13 A 21 (hiz), M14 A 19 (hiz), M15 A 16 (hiz), N1 DR1 (io), N2 CLKX1 (io), N3 DVSS (power), N4 CLKR0 (io), N5 TCLK1 (io), N6 XD 2 (io), N7 XD 7 (io), N8 VSS (power), N9 XD 14 (io), N10 XD 19 (io), N11 XD 23 (io), N12 XD 28 (io), N13 DVSS (power), N14 A 23 (hiz), N15 A 20 (hiz), P1 FSX1 (io), P2 DX1 (io), P3 FSR0 (io), P4 TCLK0 (io), P5 XD 1 (io), P6 XD 4 (io), P7 XD 8 (io), P8 XD 10 (io), P9 XD 13 (io), P10 XD 17 (io), P11 XD 20 (io), P12 XD 24 (io), P13 XD 29 (io), P14 CVSS (power), P15 XD 31 (io), R1 DR0 (io), R2 FSX0 (io), R3 DX0 (io), R4 XD 0 (io), R5 XD 3 (io), R6 XD 6 (io), R7 XD 9 (io), R8 XD 11 (io), R9 XD 12 (io), R10 XD 15 (io), R11 XD 18 (io), R12 XD 21 (io), R13 XD 25 (io), R14 XD 26 (io), R15 XD 30 (io)

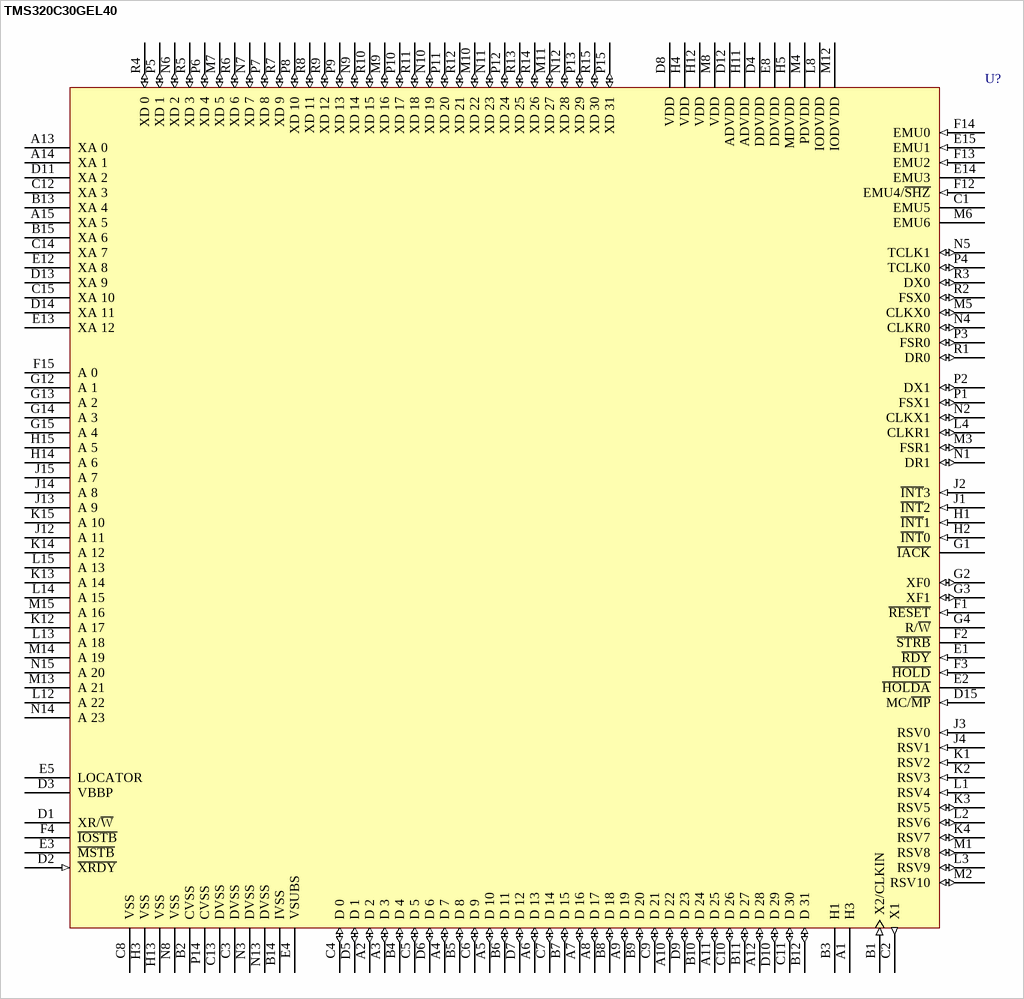
[diagram p89: symbol TMS320C30GEL40]

## TMS320C30GEL40
designator U?
Floating DSP; Published: 25-Jan-2001; LatestRevisionDate: 08-Jul-2005; LatestRevisionNote: Stylized 3D Model Added.; DatasheetVersion: Jun-1997; PackageVersion: Jun-1997; PackageReference: GE181; Publisher: Altium Limited; PackageDescription: 181-Pin Pin Grid Array 2.54 mm Pitch; ComponentLink1Description: Manufacturer Link; ComponentLink1URL: http://www.ti.com/; ComponentLink2Description: Datasheet; ComponentLink2URL: http://www-s.ti.com/sc/ds/tms320c30.pdf
footprint GE181 (PGA, 181-Leads, Body 39x39mm, Pitch 2.54mm)
3D model TMS320C30-GE181 (181-Pin Pin Grid Array 2.54 mm Pitch)
pins: A1 H3 (hiz), A2 D 2 (io), A3 D 3 (io), A4 D 7 (io), A5 D 10 (io), A6 D 13 (io), A7 D 16 (io), A8 D 17 (io), A9 D 19 (io), A10 D 22 (io), A11 D 25 (io), A12 D 28 (io), A13 XA 0 (hiz), A14 XA 1 (hiz), A15 XA 5 (hiz), B1 X2/CLKIN (in), B2 CVSS (power), B3 H1 (hiz), B4 D 4 (io), B5 D 8 (io), B6 D 11 (io), B7 D 15 (io), B8 D 18 (io), B9 D 20 (io), B10 D 24 (io), B11 D 27 (io), B12 D 31 (io), B13 XA 4 (hiz), B14 IVSS (power), B15 XA 6 (hiz), C1 EMU5, C2 X1 (out), C3 DVSS (power), C4 D 0 (io), C5 D 5 (io), C6 D 9 (io), C7 D 14 (io), C8 VSS (power), C9 D 21 (io), C10 D 26 (io), C11 D 30 (io), C12 XA 3 (hiz), C13 DVSS (power), C14 XA 7 (hiz), C15 XA 10 (hiz), D1 XR/~{W} (hiz), D2 ~{XRDY} (in), D3 VBBP, D4 DDVDD (power), D5 D 1 (io), D6 D 6 (io), D7 D 12 (io), D8 VDD (power), D9 D 23 (io), D10 D 29 (io), D11 XA 2 (hiz), D12 ADVDD (power), D13 XA 9 (hiz), D14 XA 11 (hiz), D15 MC/~{MP} (in), E1 ~{RDY} (in), E2 ~{HOLDA} (hiz), E3 ~{MSTB} (hiz), E4 VSUBS (power), E5 LOCATOR, E8 DDVDD (power), E12 XA 8 (hiz), E13 XA 12 (hiz), E14 EMU3 (hiz), E15 EMU1 (in), F1 ~{RESET} (in), F2 ~{STRB} (hiz), F3 ~{HOLD} (in), F4 ~{IOSTB} (hiz), F12 EMU4/~{SHZ} (in), F13 EMU2 (in), F14 EMU0 (in), F15 A 0 (hiz), G1 ~{IACK} (hiz), G2 XF0 (io), G3 XF1 (io), G4 R/~{W} (hiz), G12 A 1 (hiz), G13 A 2 (hiz), G14 A 3 (hiz), G15 A 4 (hiz), H1 ~{INT}1 (in), H2 ~{INT}0 (in), H3 VSS (power), H4 VDD (power), H5 MDVDD (power), H11 ADVDD (power), H12 VDD (power), H13 VSS (power), H14 A 6 (hiz), H15 A 5 (hiz), J1 ~{INT}2 (in), J2 ~{INT}3 (in), J3 RSV0 (in), J4 RSV1 (in), J12 A 11 (hiz), J13 A 9 (hiz), J14 A 8 (hiz), J15 A 7 (hiz), K1 RSV2 (in), K2 RSV3 (in), K3 RSV5 (io), K4 RSV7 (io), K12 A 17 (hiz), K13 A 14 (hiz), K14 A 12 (hiz), K15 A 10 (hiz), L1 RSV4 (in), L2 RSV6 (io), L3 RSV9 (io), L4 CLKR1 (io), L8 IODVDD (power), L12 A 22 (hiz), L13 A 18 (hiz), L14 A 15 (hiz), L15 A 13 (hiz), M1 RSV8 (io), M2 RSV10 (io), M3 FSR1 (io), M4 PDVDD (power), M5 CLKX0 (io), M6 EMU6, M7 XD 5 (io), M8 VDD (power), M9 XD 16 (io), M10 XD 22 (io), M11 XD 27 (io), M12 IODVDD (power), M13 A 21 (hiz), M14 A 19 (hiz), M15 A 16 (hiz), N1 DR1 (io), N2 CLKX1 (io), N3 DVSS (power), N4 CLKR0 (io), N5 TCLK1 (io), N6 XD 2 (io), N7 XD 7 (io), N8 VSS (power), N9 XD 14 (io), N10 XD 19 (io), N11 XD 23 (io), N12 XD 28 (io), N13 DVSS (power), N14 A 23 (hiz), N15 A 20 (hiz), P1 FSX1 (io), P2 DX1 (io), P3 FSR0 (io), P4 TCLK0 (io), P5 XD 1 (io), P6 XD 4 (io), P7 XD 8 (io), P8 XD 10 (io), P9 XD 13 (io), P10 XD 17 (io), P11 XD 20 (io), P12 XD 24 (io), P13 XD 29 (io), P14 CVSS (power), P15 XD 31 (io), R1 DR0 (io), R2 FSX0 (io), R3 DX0 (io), R4 XD 0 (io), R5 XD 3 (io), R6 XD 6 (io), R7 XD 9 (io), R8 XD 11 (io), R9 XD 12 (io), R10 XD 15 (io), R11 XD 18 (io), R12 XD 21 (io), R13 XD 25 (io), R14 XD 26 (io), R15 XD 30 (io)

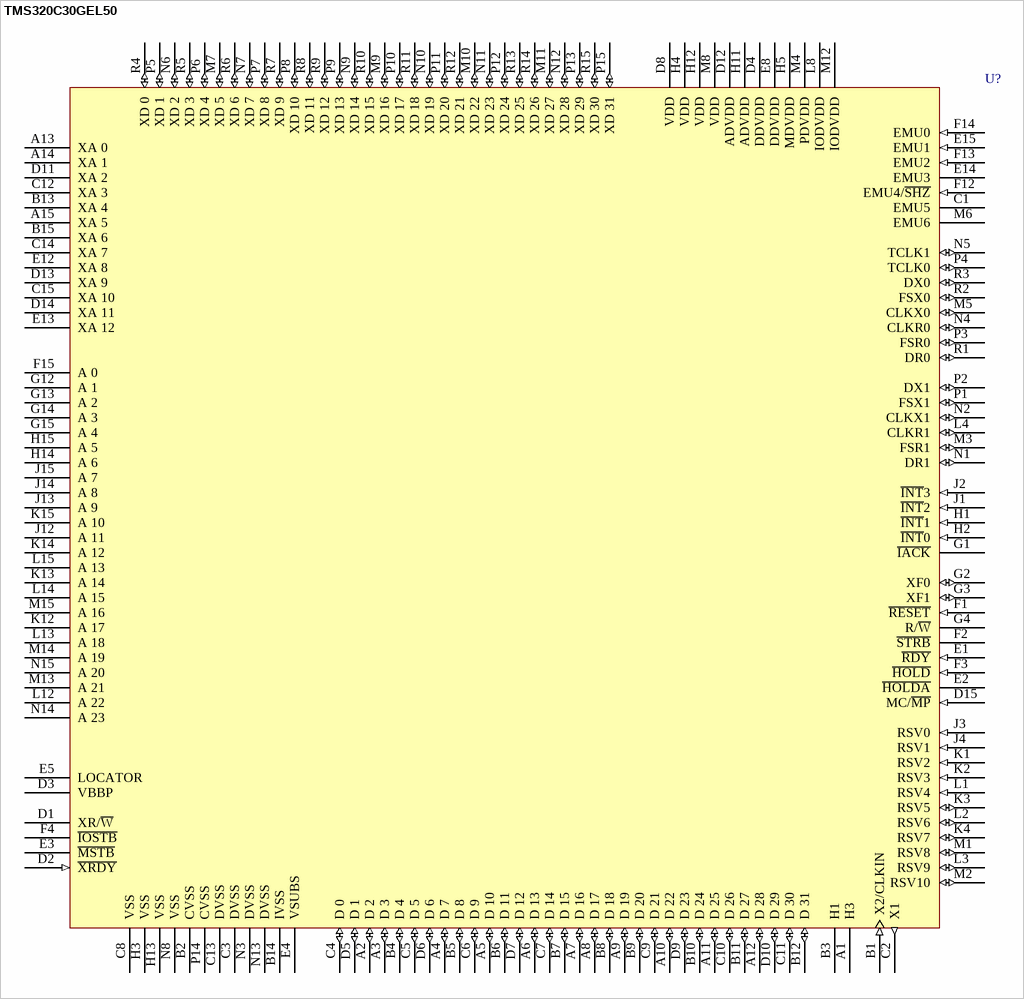
[diagram p90: symbol TMS320C30GEL50]

## TMS320C30GEL50
designator U?
Floating DSP; Published: 25-Jan-2001; LatestRevisionDate: 08-Jul-2005; LatestRevisionNote: Stylized 3D Model Added.; DatasheetVersion: Jun-1997; PackageVersion: Jun-1997; PackageReference: GE181; Publisher: Altium Limited; PackageDescription: 181-Pin Pin Grid Array 2.54 mm Pitch; ComponentLink1Description: Manufacturer Link; ComponentLink1URL: http://www.ti.com/; ComponentLink2Description: Datasheet; ComponentLink2URL: http://www-s.ti.com/sc/ds/tms320c30.pdf
footprint GE181 (PGA, 181-Leads, Body 39x39mm, Pitch 2.54mm)
3D model TMS320C30-GE181 (181-Pin Pin Grid Array 2.54 mm Pitch)
pins: A1 H3 (hiz), A2 D 2 (io), A3 D 3 (io), A4 D 7 (io), A5 D 10 (io), A6 D 13 (io), A7 D 16 (io), A8 D 17 (io), A9 D 19 (io), A10 D 22 (io), A11 D 25 (io), A12 D 28 (io), A13 XA 0 (hiz), A14 XA 1 (hiz), A15 XA 5 (hiz), B1 X2/CLKIN (in), B2 CVSS (power), B3 H1 (hiz), B4 D 4 (io), B5 D 8 (io), B6 D 11 (io), B7 D 15 (io), B8 D 18 (io), B9 D 20 (io), B10 D 24 (io), B11 D 27 (io), B12 D 31 (io), B13 XA 4 (hiz), B14 IVSS (power), B15 XA 6 (hiz), C1 EMU5, C2 X1 (out), C3 DVSS (power), C4 D 0 (io), C5 D 5 (io), C6 D 9 (io), C7 D 14 (io), C8 VSS (power), C9 D 21 (io), C10 D 26 (io), C11 D 30 (io), C12 XA 3 (hiz), C13 DVSS (power), C14 XA 7 (hiz), C15 XA 10 (hiz), D1 XR/~{W} (hiz), D2 ~{XRDY} (in), D3 VBBP, D4 DDVDD (power), D5 D 1 (io), D6 D 6 (io), D7 D 12 (io), D8 VDD (power), D9 D 23 (io), D10 D 29 (io), D11 XA 2 (hiz), D12 ADVDD (power), D13 XA 9 (hiz), D14 XA 11 (hiz), D15 MC/~{MP} (in), E1 ~{RDY} (in), E2 ~{HOLDA} (hiz), E3 ~{MSTB} (hiz), E4 VSUBS (power), E5 LOCATOR, E8 DDVDD (power), E12 XA 8 (hiz), E13 XA 12 (hiz), E14 EMU3 (hiz), E15 EMU1 (in), F1 ~{RESET} (in), F2 ~{STRB} (hiz), F3 ~{HOLD} (in), F4 ~{IOSTB} (hiz), F12 EMU4/~{SHZ} (in), F13 EMU2 (in), F14 EMU0 (in), F15 A 0 (hiz), G1 ~{IACK} (hiz), G2 XF0 (io), G3 XF1 (io), G4 R/~{W} (hiz), G12 A 1 (hiz), G13 A 2 (hiz), G14 A 3 (hiz), G15 A 4 (hiz), H1 ~{INT}1 (in), H2 ~{INT}0 (in), H3 VSS (power), H4 VDD (power), H5 MDVDD (power), H11 ADVDD (power), H12 VDD (power), H13 VSS (power), H14 A 6 (hiz), H15 A 5 (hiz), J1 ~{INT}2 (in), J2 ~{INT}3 (in), J3 RSV0 (in), J4 RSV1 (in), J12 A 11 (hiz), J13 A 9 (hiz), J14 A 8 (hiz), J15 A 7 (hiz), K1 RSV2 (in), K2 RSV3 (in), K3 RSV5 (io), K4 RSV7 (io), K12 A 17 (hiz), K13 A 14 (hiz), K14 A 12 (hiz), K15 A 10 (hiz), L1 RSV4 (in), L2 RSV6 (io), L3 RSV9 (io), L4 CLKR1 (io), L8 IODVDD (power), L12 A 22 (hiz), L13 A 18 (hiz), L14 A 15 (hiz), L15 A 13 (hiz), M1 RSV8 (io), M2 RSV10 (io), M3 FSR1 (io), M4 PDVDD (power), M5 CLKX0 (io), M6 EMU6, M7 XD 5 (io), M8 VDD (power), M9 XD 16 (io), M10 XD 22 (io), M11 XD 27 (io), M12 IODVDD (power), M13 A 21 (hiz), M14 A 19 (hiz), M15 A 16 (hiz), N1 DR1 (io), N2 CLKX1 (io), N3 DVSS (power), N4 CLKR0 (io), N5 TCLK1 (io), N6 XD 2 (io), N7 XD 7 (io), N8 VSS (power), N9 XD 14 (io), N10 XD 19 (io), N11 XD 23 (io), N12 XD 28 (io), N13 DVSS (power), N14 A 23 (hiz), N15 A 20 (hiz), P1 FSX1 (io), P2 DX1 (io), P3 FSR0 (io), P4 TCLK0 (io), P5 XD 1 (io), P6 XD 4 (io), P7 XD 8 (io), P8 XD 10 (io), P9 XD 13 (io), P10 XD 17 (io), P11 XD 20 (io), P12 XD 24 (io), P13 XD 29 (io), P14 CVSS (power), P15 XD 31 (io), R1 DR0 (io), R2 FSX0 (io), R3 DX0 (io), R4 XD 0 (io), R5 XD 3 (io), R6 XD 6 (io), R7 XD 9 (io), R8 XD 11 (io), R9 XD 12 (io), R10 XD 15 (io), R11 XD 18 (io), R12 XD 21 (io), R13 XD 25 (io), R14 XD 26 (io), R15 XD 30 (io)

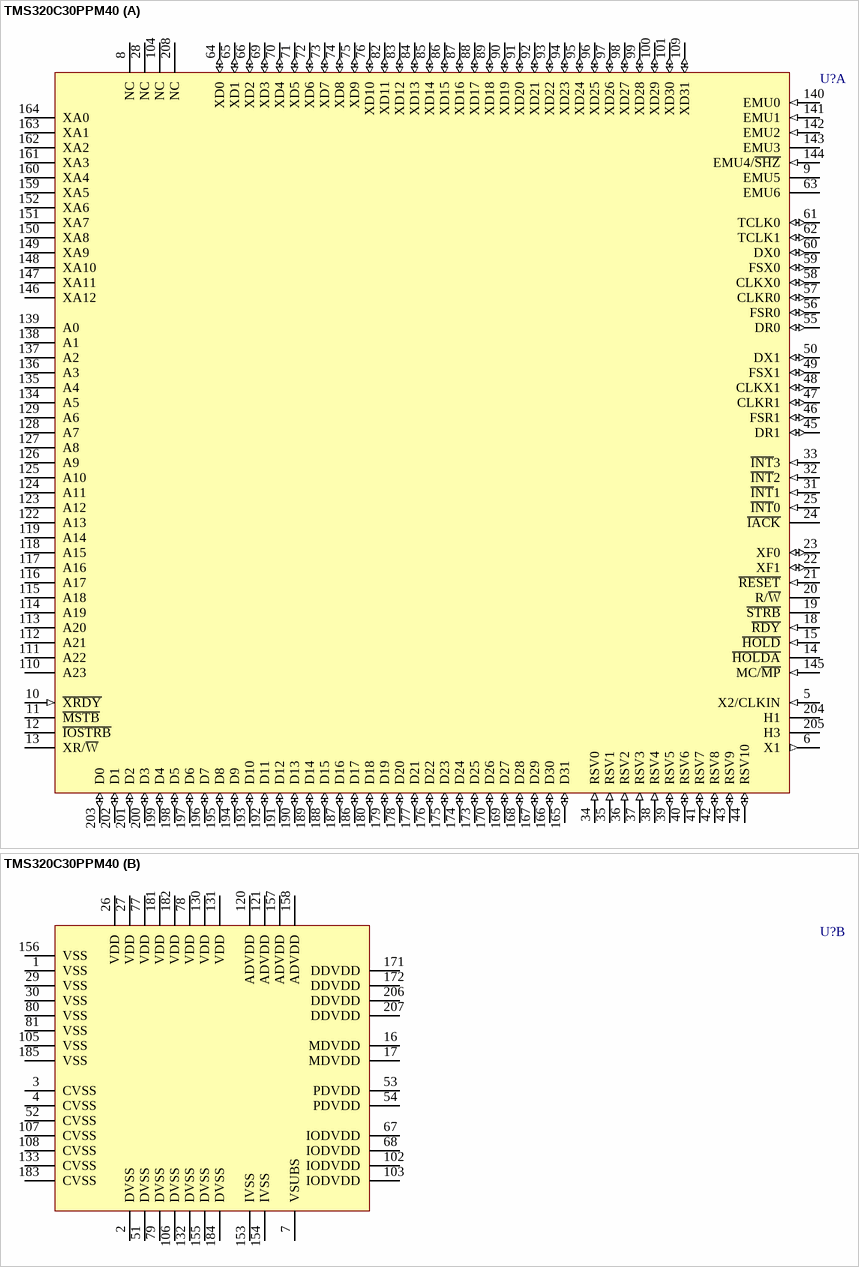
[diagram p91: symbol TMS320C30PPM40]

## TMS320C30PPM40
designator U?
Floating DSP; ComponentAvailability: Obsolete; Published: 25-Jan-2001; LatestRevisionDate: 13-Apr-2006; LatestRevisionNote: IPC-7351 Footprint Added.; DatasheetVersion: Jun-1997; PackageVersion: Oct-1994; PackageReference: PPM208; Publisher: Altium Limited; PackageDescription: 208-Pin Shrink Quad Flat Pack 0.5 mm Pitch; ComponentLink1Description: Manufacturer Link; ComponentLink1URL: http://www.ti.com/; ComponentLink2Description: Datasheet; ComponentLink2URL: http://www-s.ti.com/sc/ds/tms320c30.pdf
footprint PPM208_N (Shrink QFP, 208-Leads, Body 28x28mm, Pitch 0.5mm, IPC Medium Density)
footprint PPM208_L (Shrink QFP, 208-Leads, Body 28x28mm, Pitch 0.5mm, IPC High Density)
footprint PPM208_M (Shrink QFP, 208-Leads, Body 28x28mm, Pitch 0.5mm, IPC Low Density)
3D model TMS320C30-PPM208 (208-Pin Shrink Quad Flat Pack 0.5 mm Pitch)
part A pins: 5 X2/CLKIN (in), 6 X1 (out), 8 NC, 9 EMU5, 10 ~{XRDY} (in), 11 ~{MSTB} (hiz), 12 ~{IOSTRB} (hiz), 13 XR/~{W} (hiz), 14 ~{HOLDA} (hiz), 15 ~{HOLD} (in), 18 ~{RDY} (in), 19 ~{STRB} (hiz), 20 R/~{W} (hiz), 21 ~{RESET} (in), 22 XF1 (io), 23 XF0 (io), 24 ~{IACK} (hiz), 25 ~{INT}0 (in), 28 NC, 31 ~{INT}1 (in), 32 ~{INT}2 (in), 33 ~{INT}3 (in), 34 RSV0 (in), 35 RSV1 (in), 36 RSV2 (in), 37 RSV3 (in), 38 RSV4 (in), 39 RSV5 (io), 40 RSV6 (io), 41 RSV7 (io), 42 RSV8 (io), 43 RSV9 (io), 44 RSV10 (io), 45 DR1 (io), 46 FSR1 (io), 47 CLKR1 (io), 48 CLKX1 (io), 49 FSX1 (io), 50 DX1 (io), 55 DR0 (io), 56 FSR0 (io), 57 CLKR0 (io), 58 CLKX0 (io), 59 FSX0 (io), 60 DX0 (io), 61 TCLK0 (io), 62 TCLK1 (io), 63 EMU6, 64 XD0 (io), 65 XD1 (io), 66 XD2 (io), 69 XD3 (io), 70 XD4 (io), 71 XD5 (io), 72 XD6 (io), 73 XD7 (io), 74 XD8 (io), 75 XD9 (io), 76 XD10 (io), 82 XD11 (io), 83 XD12 (io), 84 XD13 (io), 85 XD14 (io), 86 XD15 (io), 87 XD16 (io), 88 XD17 (io), 89 XD18 (io), 90 XD19 (io), 91 XD20 (io), 92 XD21 (io), 93 XD22 (io), 94 XD23 (io), 95 XD24 (io), 96 XD25 (io), 97 XD26 (io), 98 XD27 (io), 99 XD28 (io), 100 XD29 (io), 101 XD30 (io), 104 NC, 109 XD31 (io), 110 A23 (hiz), 111 A22 (hiz), 112 A21 (hiz), 113 A20 (hiz), 114 A19 (hiz), 115 A18 (hiz), 116 A17 (hiz), 117 A16 (hiz), 118 A15 (hiz), 119 A14 (hiz), 122 A13 (hiz), 123 A12 (hiz), 124 A11 (hiz), 125 A10 (hiz), 126 A9 (hiz), 127 A8 (hiz), 128 A7 (hiz), 129 A6 (hiz), 134 A5 (hiz), 135 A4 (hiz), 136 A3 (hiz), 137 A2 (hiz), 138 A1 (hiz), 139 A0 (hiz), 140 EMU0 (in), 141 EMU1 (in), 142 EMU2 (in), 143 EMU3 (hiz), 144 EMU4/~{SHZ} (in), 145 MC/~{MP} (in), 146 XA12 (hiz), 147 XA11 (hiz), 148 XA10 (hiz), 149 XA9 (hiz), 150 XA8 (hiz), 151 XA7 (hiz), 152 XA6 (hiz), 159 XA5 (hiz), 160 XA4 (hiz), 161 XA3 (hiz), 162 XA2 (hiz), 163 XA1 (hiz), 164 XA0 (hiz), 165 D31 (io), 166 D30 (io), 167 D29 (io), 168 D28 (io), 169 D27 (io), 170 D26 (io), 173 D25 (io), 174 D24 (io), 175 D23 (io), 176 D22 (io), 177 D21 (io), 178 D20 (io), 179 D19 (io), 180 D18 (io), 186 D17 (io), 187 D16 (io), 188 D15 (io), 189 D14 (io), 190 D13 (io), 191 D12 (io), 192 D11 (io), 193 D10 (io), 194 D9 (io), 195 D8 (io), 196 D7 (io), 197 D6 (io), 198 D5 (io), 199 D4 (io), 200 D3 (io), 201 D2 (io), 202 D1 (io), 203 D0 (io), 204 H1 (hiz), 205 H3 (hiz), 208 NC
part B pins: 1 VSS (power), 2 DVSS (power), 3 CVSS (power), 4 CVSS (power), 7 VSUBS (power), 16 MDVDD (power), 17 MDVDD (power), 26 VDD (power), 27 VDD (power), 29 VSS (power), 30 VSS (power), 51 DVSS (power), 52 CVSS (power), 53 PDVDD (power), 54 PDVDD (power), 67 IODVDD (power), 68 IODVDD (power), 77 VDD (power), 78 VDD (power), 79 DVSS (power), 80 VSS (power), 81 VSS (power), 102 IODVDD (power), 103 IODVDD (power), 105 VSS (power), 106 DVSS (power), 107 CVSS (power), 108 CVSS (power), 120 ADVDD (power), 121 ADVDD (power), 130 VDD (power), 131 VDD (power), 132 DVSS (power), 133 CVSS (power), 153 IVSS (power), 154 IVSS (power), 155 DVSS (power), 156 VSS (power), 157 ADVDD (power), 158 ADVDD (power), 171 DDVDD (power), 172 DDVDD (power), 181 VDD (power), 182 VDD (power), 183 CVSS (power), 184 DVSS (power), 185 VSS (power), 206 DDVDD (power), 207 DDVDD (power)

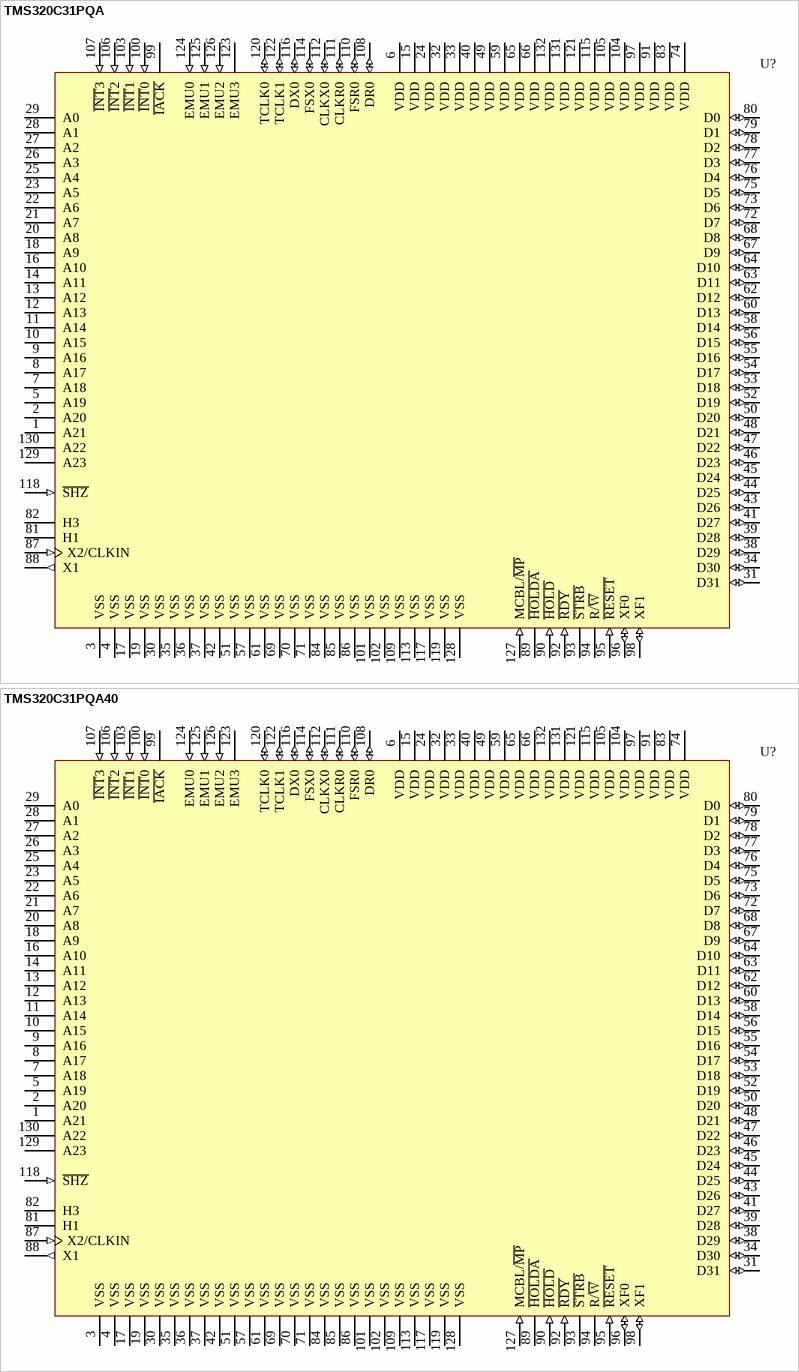
[diagram p92: symbols TMS320C31PQA to TMS320C31PQA40]

## TMS320C31PQA
designator U?
Floating DSP; ComponentAvailability: Obsolete; Published: 25-Jan-2001; LatestRevisionDate: 17-Jul-2002; LatestRevisionNote: Re-released for DXP Platform.; DatasheetVersion: Jan-1999; PackageVersion: Nov-1995; PackageReference: PQ132; Publisher: Altium Limited; PackageDescription: PQFP; 132 Leads; Body 24 x 24 mm; Pitch 0.635 mm; Code_JEDEC: MO-069; ComponentLink1Description: Manufacturer Link; ComponentLink1URL: http://www.ti.com/; ComponentLink2Description: Datasheet; ComponentLink2URL: http://www-s.ti.com/sc/ds/tms320lc31.pdf
footprint PQ132 (PQFP; 132 Leads; Body 24 x 24 mm; Pitch 0.635 mm)
pins: 1 A21 (hiz), 2 A20 (hiz), 3 VSS (power), 4 VSS (power), 5 A19 (hiz), 6 VDD (power), 7 A18 (hiz), 8 A17 (hiz), 9 A16 (hiz), 10 A15 (hiz), 11 A14 (hiz), 12 A13 (hiz), 13 A12 (hiz), 14 A11 (hiz), 15 VDD (power), 16 A10 (hiz), 17 VSS (power), 18 A9 (hiz), 19 VSS (power), 20 A8 (hiz), 21 A7 (hiz), 22 A6 (hiz), 23 A5 (hiz), 24 VDD (power), 25 A4 (hiz), 26 A3 (hiz), 27 A2 (hiz), 28 A1 (hiz), 29 A0 (hiz), 30 VSS (power), 31 D31 (io), 32 VDD (power), 33 VDD (power), 34 D30 (io), 35 VSS (power), 36 VSS (power), 37 VSS (power), 38 D29 (io), 39 D28 (io), 40 VDD (power), 41 D27 (io), 42 VSS (power), 43 D26 (io), 44 D25 (io), 45 D24 (io), 46 D23 (io), 47 D22 (io), 48 D21 (io), 49 VDD (power), 50 D20 (io), 51 VSS (power), 52 D19 (io), 53 D18 (io), 54 D17 (io), 55 D16 (io), 56 D15 (io), 57 VSS (power), 58 D14 (io), 59 VDD (power), 60 D13 (io), 61 VSS (power), 62 D12 (io), 63 D11 (io), 64 D10 (io), 65 VDD (power), 66 VDD (power), 67 D9 (io), 68 D8 (io), 69 VSS (power), 70 VSS (power), 71 VSS (power), 72 D7 (io), 73 D6 (io), 74 VDD (power), 75 D5 (io), 76 D4 (io), 77 D3 (io), 78 D2 (io), 79 D1 (io), 80 D0 (io), 81 H1 (hiz), 82 H3 (hiz), 83 VDD (power), 84 VSS (power), 85 VSS (power), 86 VSS (power), 87 X2/CLKIN (in), 88 X1 (out), 89 ~{HOLDA} (hiz), 90 ~{HOLD} (in), 91 VDD (power), 92 ~{RDY} (in), 93 ~{STRB} (hiz), 94 R/~{W} (hiz), 95 ~{RESET} (in), 96 XF0 (io), 97 VDD (power), 98 XF1 (io), 99 ~{IACK} (hiz), 100 ~{INT}0 (in), 101 VSS (power), 102 VSS (power), 103 ~{INT}1 (in), 104 VDD (power), 105 VDD (power), 106 ~{INT}2 (in), 107 ~{INT}3 (in), 108 DR0 (io), 109 VSS (power), 110 FSR0 (io), 111 CLKR0 (io), 112 CLKX0 (io), 113 VSS (power), 114 FSX0 (io), 115 VDD (power), 116 DX0 (io), 117 VSS (power), 118 ~{SHZ} (in), 119 VSS (power), 120 TCLK0 (io), 121 VDD (power), 122 TCLK1 (io), 123 EMU3 (hiz), 124 EMU0 (in), 125 EMU1 (in), 126 EMU2 (in), 127 MCBL/~{MP} (in), 128 VSS (power), 129 A23 (hiz), 130 A22 (hiz), 131 VDD (power), 132 VDD (power)

## TMS320C31PQA40
designator U?
Floating DSP; Published: 25-Jan-2001; LatestRevisionDate: 17-Jul-2002; LatestRevisionNote: Re-released for DXP Platform.; DatasheetVersion: Jan-1999; PackageVersion: Nov-1995; PackageReference: PQ132; Publisher: Altium Limited; PackageDescription: PQFP; 132 Leads; Body 24 x 24 mm; Pitch 0.635 mm; Code_JEDEC: MO-069; ComponentLink1Description: Manufacturer Link; ComponentLink1URL: http://www.ti.com/; ComponentLink2Description: Datasheet; ComponentLink2URL: http://www-s.ti.com/sc/ds/tms320lc31.pdf
footprint PQ132 (PQFP; 132 Leads; Body 24 x 24 mm; Pitch 0.635 mm)
pins: 1 A21 (hiz), 2 A20 (hiz), 3 VSS (power), 4 VSS (power), 5 A19 (hiz), 6 VDD (power), 7 A18 (hiz), 8 A17 (hiz), 9 A16 (hiz), 10 A15 (hiz), 11 A14 (hiz), 12 A13 (hiz), 13 A12 (hiz), 14 A11 (hiz), 15 VDD (power), 16 A10 (hiz), 17 VSS (power), 18 A9 (hiz), 19 VSS (power), 20 A8 (hiz), 21 A7 (hiz), 22 A6 (hiz), 23 A5 (hiz), 24 VDD (power), 25 A4 (hiz), 26 A3 (hiz), 27 A2 (hiz), 28 A1 (hiz), 29 A0 (hiz), 30 VSS (power), 31 D31 (io), 32 VDD (power), 33 VDD (power), 34 D30 (io), 35 VSS (power), 36 VSS (power), 37 VSS (power), 38 D29 (io), 39 D28 (io), 40 VDD (power), 41 D27 (io), 42 VSS (power), 43 D26 (io), 44 D25 (io), 45 D24 (io), 46 D23 (io), 47 D22 (io), 48 D21 (io), 49 VDD (power), 50 D20 (io), 51 VSS (power), 52 D19 (io), 53 D18 (io), 54 D17 (io), 55 D16 (io), 56 D15 (io), 57 VSS (power), 58 D14 (io), 59 VDD (power), 60 D13 (io), 61 VSS (power), 62 D12 (io), 63 D11 (io), 64 D10 (io), 65 VDD (power), 66 VDD (power), 67 D9 (io), 68 D8 (io), 69 VSS (power), 70 VSS (power), 71 VSS (power), 72 D7 (io), 73 D6 (io), 74 VDD (power), 75 D5 (io), 76 D4 (io), 77 D3 (io), 78 D2 (io), 79 D1 (io), 80 D0 (io), 81 H1 (hiz), 82 H3 (hiz), 83 VDD (power), 84 VSS (power), 85 VSS (power), 86 VSS (power), 87 X2/CLKIN (in), 88 X1 (out), 89 ~{HOLDA} (hiz), 90 ~{HOLD} (in), 91 VDD (power), 92 ~{RDY} (in), 93 ~{STRB} (hiz), 94 R/~{W} (hiz), 95 ~{RESET} (in), 96 XF0 (io), 97 VDD (power), 98 XF1 (io), 99 ~{IACK} (hiz), 100 ~{INT}0 (in), 101 VSS (power), 102 VSS (power), 103 ~{INT}1 (in), 104 VDD (power), 105 VDD (power), 106 ~{INT}2 (in), 107 ~{INT}3 (in), 108 DR0 (io), 109 VSS (power), 110 FSR0 (io), 111 CLKR0 (io), 112 CLKX0 (io), 113 VSS (power), 114 FSX0 (io), 115 VDD (power), 116 DX0 (io), 117 VSS (power), 118 ~{SHZ} (in), 119 VSS (power), 120 TCLK0 (io), 121 VDD (power), 122 TCLK1 (io), 123 EMU3 (hiz), 124 EMU0 (in), 125 EMU1 (in), 126 EMU2 (in), 127 MCBL/~{MP} (in), 128 VSS (power), 129 A23 (hiz), 130 A22 (hiz), 131 VDD (power), 132 VDD (power)

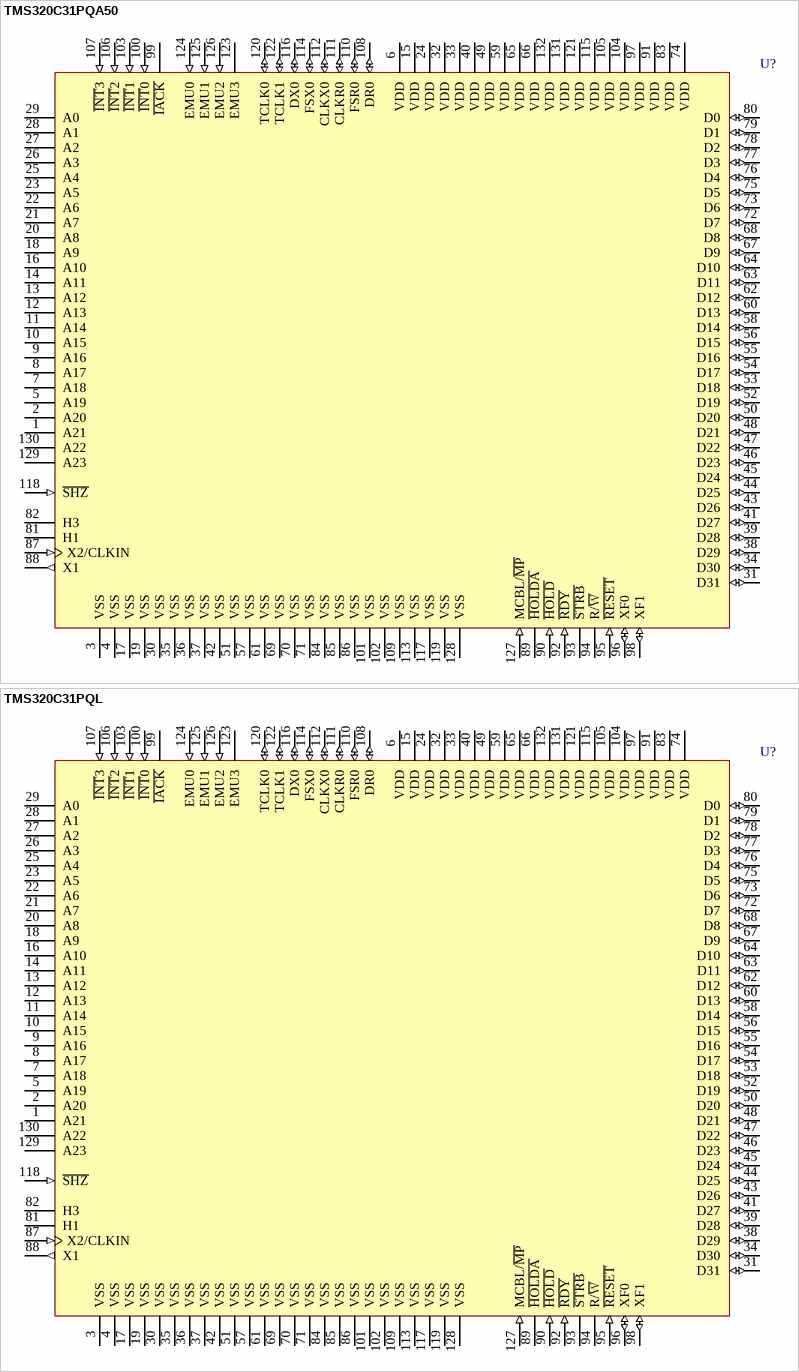
[diagram p93: symbols TMS320C31PQA50 to TMS320C31PQL]

## TMS320C31PQA50
designator U?
Floating DSP; Published: 25-Jan-2001; LatestRevisionDate: 17-Jul-2002; LatestRevisionNote: Re-released for DXP Platform.; DatasheetVersion: Jan-1999; PackageVersion: Nov-1995; PackageReference: PQ132; Publisher: Altium Limited; PackageDescription: PQFP; 132 Leads; Body 24 x 24 mm; Pitch 0.635 mm; Code_JEDEC: MO-069; ComponentLink1Description: Manufacturer Link; ComponentLink1URL: http://www.ti.com/; ComponentLink2Description: Datasheet; ComponentLink2URL: http://www-s.ti.com/sc/ds/tms320lc31.pdf
footprint PQ132 (PQFP; 132 Leads; Body 24 x 24 mm; Pitch 0.635 mm)
pins: 1 A21 (hiz), 2 A20 (hiz), 3 VSS (power), 4 VSS (power), 5 A19 (hiz), 6 VDD (power), 7 A18 (hiz), 8 A17 (hiz), 9 A16 (hiz), 10 A15 (hiz), 11 A14 (hiz), 12 A13 (hiz), 13 A12 (hiz), 14 A11 (hiz), 15 VDD (power), 16 A10 (hiz), 17 VSS (power), 18 A9 (hiz), 19 VSS (power), 20 A8 (hiz), 21 A7 (hiz), 22 A6 (hiz), 23 A5 (hiz), 24 VDD (power), 25 A4 (hiz), 26 A3 (hiz), 27 A2 (hiz), 28 A1 (hiz), 29 A0 (hiz), 30 VSS (power), 31 D31 (io), 32 VDD (power), 33 VDD (power), 34 D30 (io), 35 VSS (power), 36 VSS (power), 37 VSS (power), 38 D29 (io), 39 D28 (io), 40 VDD (power), 41 D27 (io), 42 VSS (power), 43 D26 (io), 44 D25 (io), 45 D24 (io), 46 D23 (io), 47 D22 (io), 48 D21 (io), 49 VDD (power), 50 D20 (io), 51 VSS (power), 52 D19 (io), 53 D18 (io), 54 D17 (io), 55 D16 (io), 56 D15 (io), 57 VSS (power), 58 D14 (io), 59 VDD (power), 60 D13 (io), 61 VSS (power), 62 D12 (io), 63 D11 (io), 64 D10 (io), 65 VDD (power), 66 VDD (power), 67 D9 (io), 68 D8 (io), 69 VSS (power), 70 VSS (power), 71 VSS (power), 72 D7 (io), 73 D6 (io), 74 VDD (power), 75 D5 (io), 76 D4 (io), 77 D3 (io), 78 D2 (io), 79 D1 (io), 80 D0 (io), 81 H1 (hiz), 82 H3 (hiz), 83 VDD (power), 84 VSS (power), 85 VSS (power), 86 VSS (power), 87 X2/CLKIN (in), 88 X1 (out), 89 ~{HOLDA} (hiz), 90 ~{HOLD} (in), 91 VDD (power), 92 ~{RDY} (in), 93 ~{STRB} (hiz), 94 R/~{W} (hiz), 95 ~{RESET} (in), 96 XF0 (io), 97 VDD (power), 98 XF1 (io), 99 ~{IACK} (hiz), 100 ~{INT}0 (in), 101 VSS (power), 102 VSS (power), 103 ~{INT}1 (in), 104 VDD (power), 105 VDD (power), 106 ~{INT}2 (in), 107 ~{INT}3 (in), 108 DR0 (io), 109 VSS (power), 110 FSR0 (io), 111 CLKR0 (io), 112 CLKX0 (io), 113 VSS (power), 114 FSX0 (io), 115 VDD (power), 116 DX0 (io), 117 VSS (power), 118 ~{SHZ} (in), 119 VSS (power), 120 TCLK0 (io), 121 VDD (power), 122 TCLK1 (io), 123 EMU3 (hiz), 124 EMU0 (in), 125 EMU1 (in), 126 EMU2 (in), 127 MCBL/~{MP} (in), 128 VSS (power), 129 A23 (hiz), 130 A22 (hiz), 131 VDD (power), 132 VDD (power)

## TMS320C31PQL
designator U?
Floating DSP; ComponentAvailability: Obsolete; Published: 25-Jan-2001; LatestRevisionDate: 17-Jul-2002; LatestRevisionNote: Re-released for DXP Platform.; DatasheetVersion: Jan-1999; PackageVersion: Nov-1995; PackageReference: PQ132; Publisher: Altium Limited; PackageDescription: PQFP; 132 Leads; Body 24 x 24 mm; Pitch 0.635 mm; Code_JEDEC: MO-069; ComponentLink1Description: Manufacturer Link; ComponentLink1URL: http://www.ti.com/; ComponentLink2Description: Datasheet; ComponentLink2URL: http://www-s.ti.com/sc/ds/tms320lc31.pdf
footprint PQ132 (PQFP; 132 Leads; Body 24 x 24 mm; Pitch 0.635 mm)
pins: 1 A21 (hiz), 2 A20 (hiz), 3 VSS (power), 4 VSS (power), 5 A19 (hiz), 6 VDD (power), 7 A18 (hiz), 8 A17 (hiz), 9 A16 (hiz), 10 A15 (hiz), 11 A14 (hiz), 12 A13 (hiz), 13 A12 (hiz), 14 A11 (hiz), 15 VDD (power), 16 A10 (hiz), 17 VSS (power), 18 A9 (hiz), 19 VSS (power), 20 A8 (hiz), 21 A7 (hiz), 22 A6 (hiz), 23 A5 (hiz), 24 VDD (power), 25 A4 (hiz), 26 A3 (hiz), 27 A2 (hiz), 28 A1 (hiz), 29 A0 (hiz), 30 VSS (power), 31 D31 (io), 32 VDD (power), 33 VDD (power), 34 D30 (io), 35 VSS (power), 36 VSS (power), 37 VSS (power), 38 D29 (io), 39 D28 (io), 40 VDD (power), 41 D27 (io), 42 VSS (power), 43 D26 (io), 44 D25 (io), 45 D24 (io), 46 D23 (io), 47 D22 (io), 48 D21 (io), 49 VDD (power), 50 D20 (io), 51 VSS (power), 52 D19 (io), 53 D18 (io), 54 D17 (io), 55 D16 (io), 56 D15 (io), 57 VSS (power), 58 D14 (io), 59 VDD (power), 60 D13 (io), 61 VSS (power), 62 D12 (io), 63 D11 (io), 64 D10 (io), 65 VDD (power), 66 VDD (power), 67 D9 (io), 68 D8 (io), 69 VSS (power), 70 VSS (power), 71 VSS (power), 72 D7 (io), 73 D6 (io), 74 VDD (power), 75 D5 (io), 76 D4 (io), 77 D3 (io), 78 D2 (io), 79 D1 (io), 80 D0 (io), 81 H1 (hiz), 82 H3 (hiz), 83 VDD (power), 84 VSS (power), 85 VSS (power), 86 VSS (power), 87 X2/CLKIN (in), 88 X1 (out), 89 ~{HOLDA} (hiz), 90 ~{HOLD} (in), 91 VDD (power), 92 ~{RDY} (in), 93 ~{STRB} (hiz), 94 R/~{W} (hiz), 95 ~{RESET} (in), 96 XF0 (io), 97 VDD (power), 98 XF1 (io), 99 ~{IACK} (hiz), 100 ~{INT}0 (in), 101 VSS (power), 102 VSS (power), 103 ~{INT}1 (in), 104 VDD (power), 105 VDD (power), 106 ~{INT}2 (in), 107 ~{INT}3 (in), 108 DR0 (io), 109 VSS (power), 110 FSR0 (io), 111 CLKR0 (io), 112 CLKX0 (io), 113 VSS (power), 114 FSX0 (io), 115 VDD (power), 116 DX0 (io), 117 VSS (power), 118 ~{SHZ} (in), 119 VSS (power), 120 TCLK0 (io), 121 VDD (power), 122 TCLK1 (io), 123 EMU3 (hiz), 124 EMU0 (in), 125 EMU1 (in), 126 EMU2 (in), 127 MCBL/~{MP} (in), 128 VSS (power), 129 A23 (hiz), 130 A22 (hiz), 131 VDD (power), 132 VDD (power)

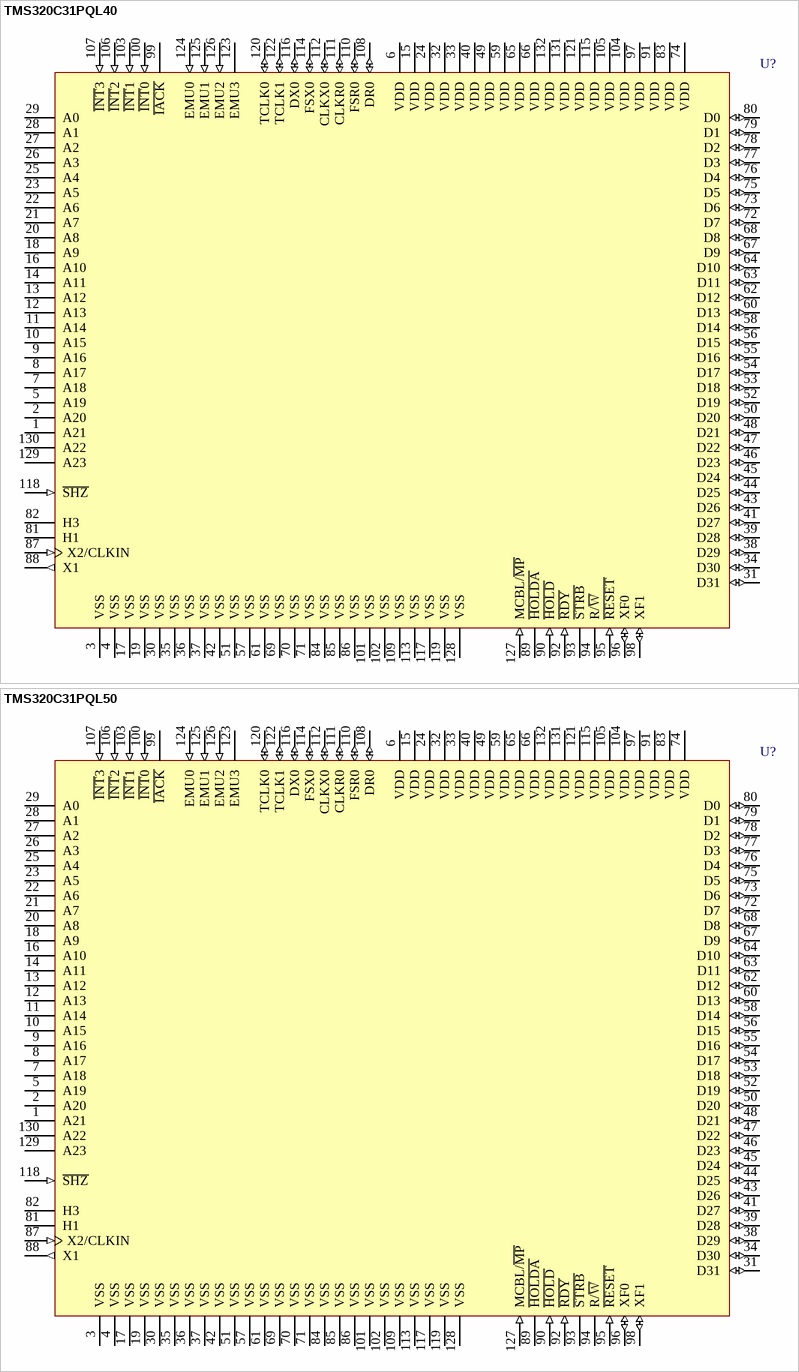
[diagram p94: symbols TMS320C31PQL40 to TMS320C31PQL50]